# Altium schematic symbol library lpson.SchLib: 630 symbols (part 3 of 5)
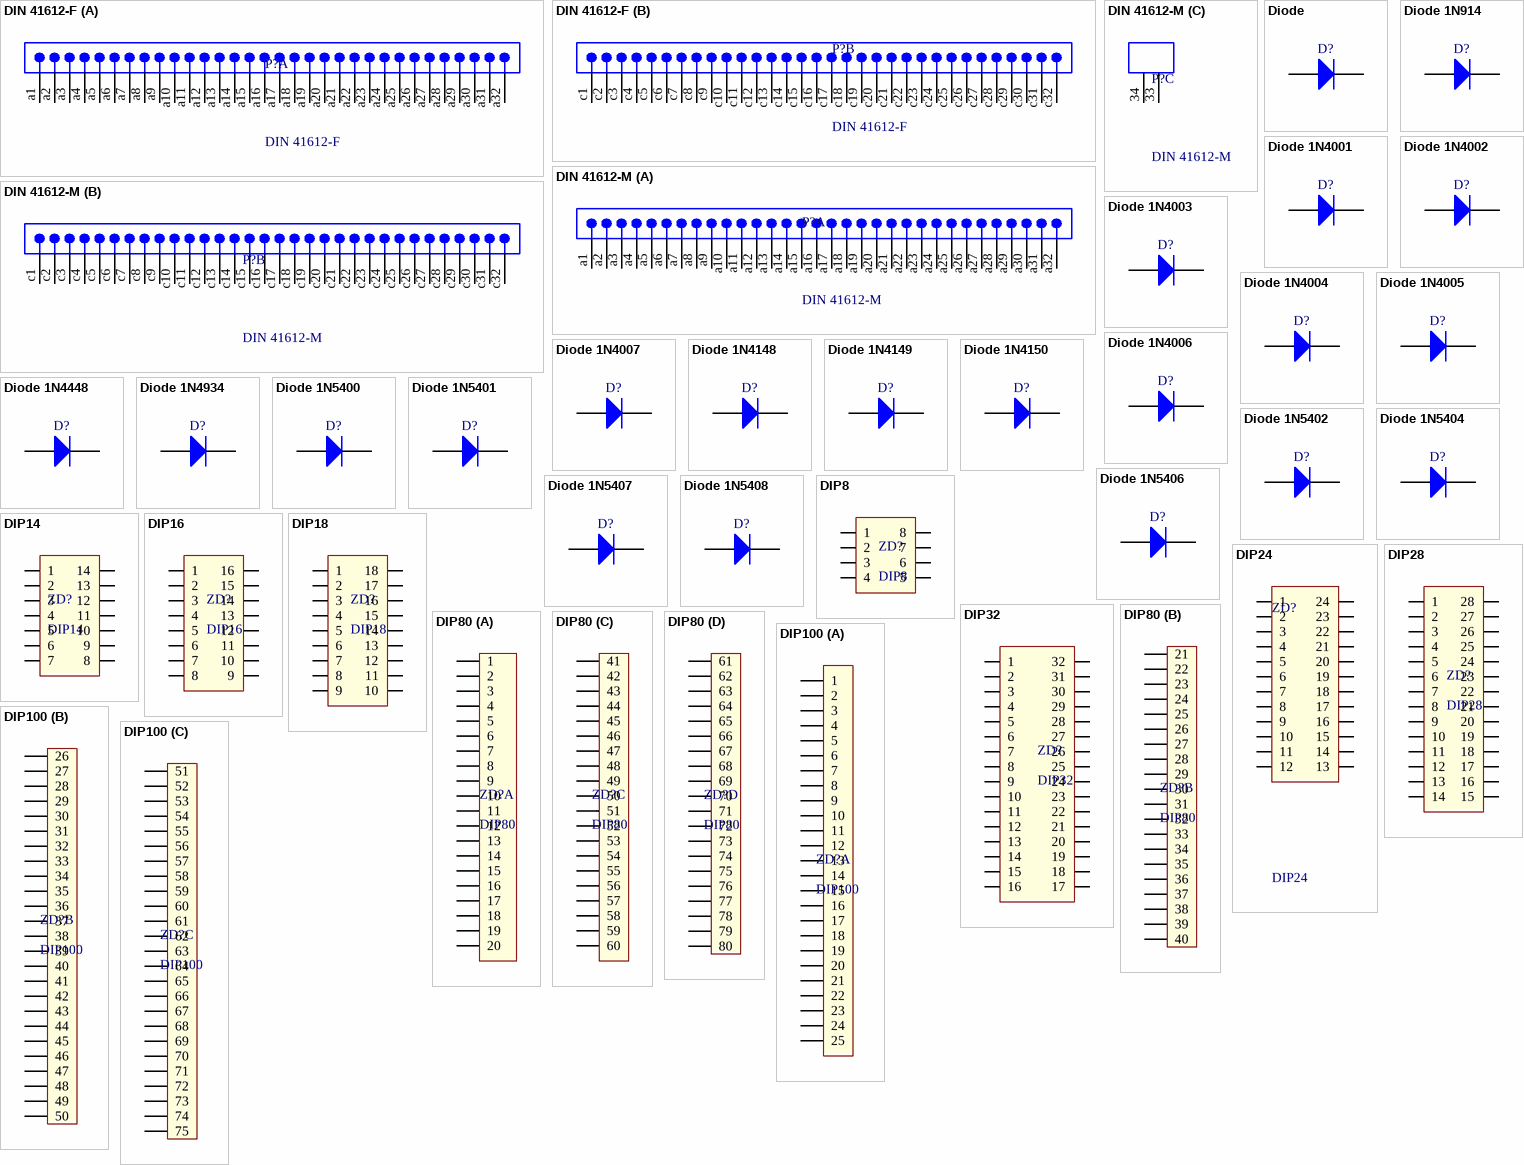
[diagram p23: symbols DIN 41612-F to DIP100]

## DIP18
designator ZD?
Value: DIP18
footprint DIP18/W0.3 (18 PIN, W 300mil, Pin to pin 100mil)
pins: 1, 2, 3, 4, 5, 6, 7, 8, 9, 10, 11, 12, 13, 14, 15, 16, 17, 18

## DIP24
designator ZD?
Value: DIP24
footprint DIP28/W0.3 (28 PIN, W 300mil, Pin to pin 100mil)
pins: 1, 2, 3, 4, 5, 6, 7, 8, 9, 10, 11, 12, 13, 14, 15, 16, 17, 18, 19, 20, 21, 22, 23, 24

## DIP28
designator ZD?
Value: DIP28
footprint DIP28/W0.3 (28 PIN, W 300mil, Pin to pin 100mil)
pins: 1, 2, 3, 4, 5, 6, 7, 8, 9, 10, 11, 12, 13, 14, 15, 16, 17, 18, 19, 20, 21, 22, 23, 24, 25, 26, 27, 28

## DIP32
designator ZD?
Value: ZIP32
footprint DIP32/W0.6 (DIP32/W.600, Pin to pin 100mil)
pins: 1, 2, 3, 4, 5, 6, 7, 8, 9, 10, 11, 12, 13, 14, 15, 16, 17, 18, 19, 20, 21, 22, 23, 24, 25, 26, 27, 28, 29, 30, 31, 32

## DIP80
designator ZD?
Value: DIP80
footprint DIP80_2M (DIP80, P - P 200)
footprint TQFP-80 (Thin QFP, 80-Leads, Body 12x12mm, Pitch 0.5mm, IPC Low Density)
part A pins: 1, 2, 3, 4, 5, 6, 7, 8, 9, 10, 11, 12, 13, 14, 15, 16, 17, 18, 19, 20
part B pins: 21, 22, 23, 24, 25, 26, 27, 28, 29, 30, 31, 32, 33, 34, 35, 36, 37, 38, 39, 40
part C pins: 41, 42, 43, 44, 45, 46, 47, 48, 49, 50, 51, 52, 53, 54, 55, 56, 57, 58, 59, 60
part D pins: 61, 62, 63, 64, 65, 66, 67, 68, 69, 70, 71, 72, 73, 74, 75, 76, 77, 78, 79, 80

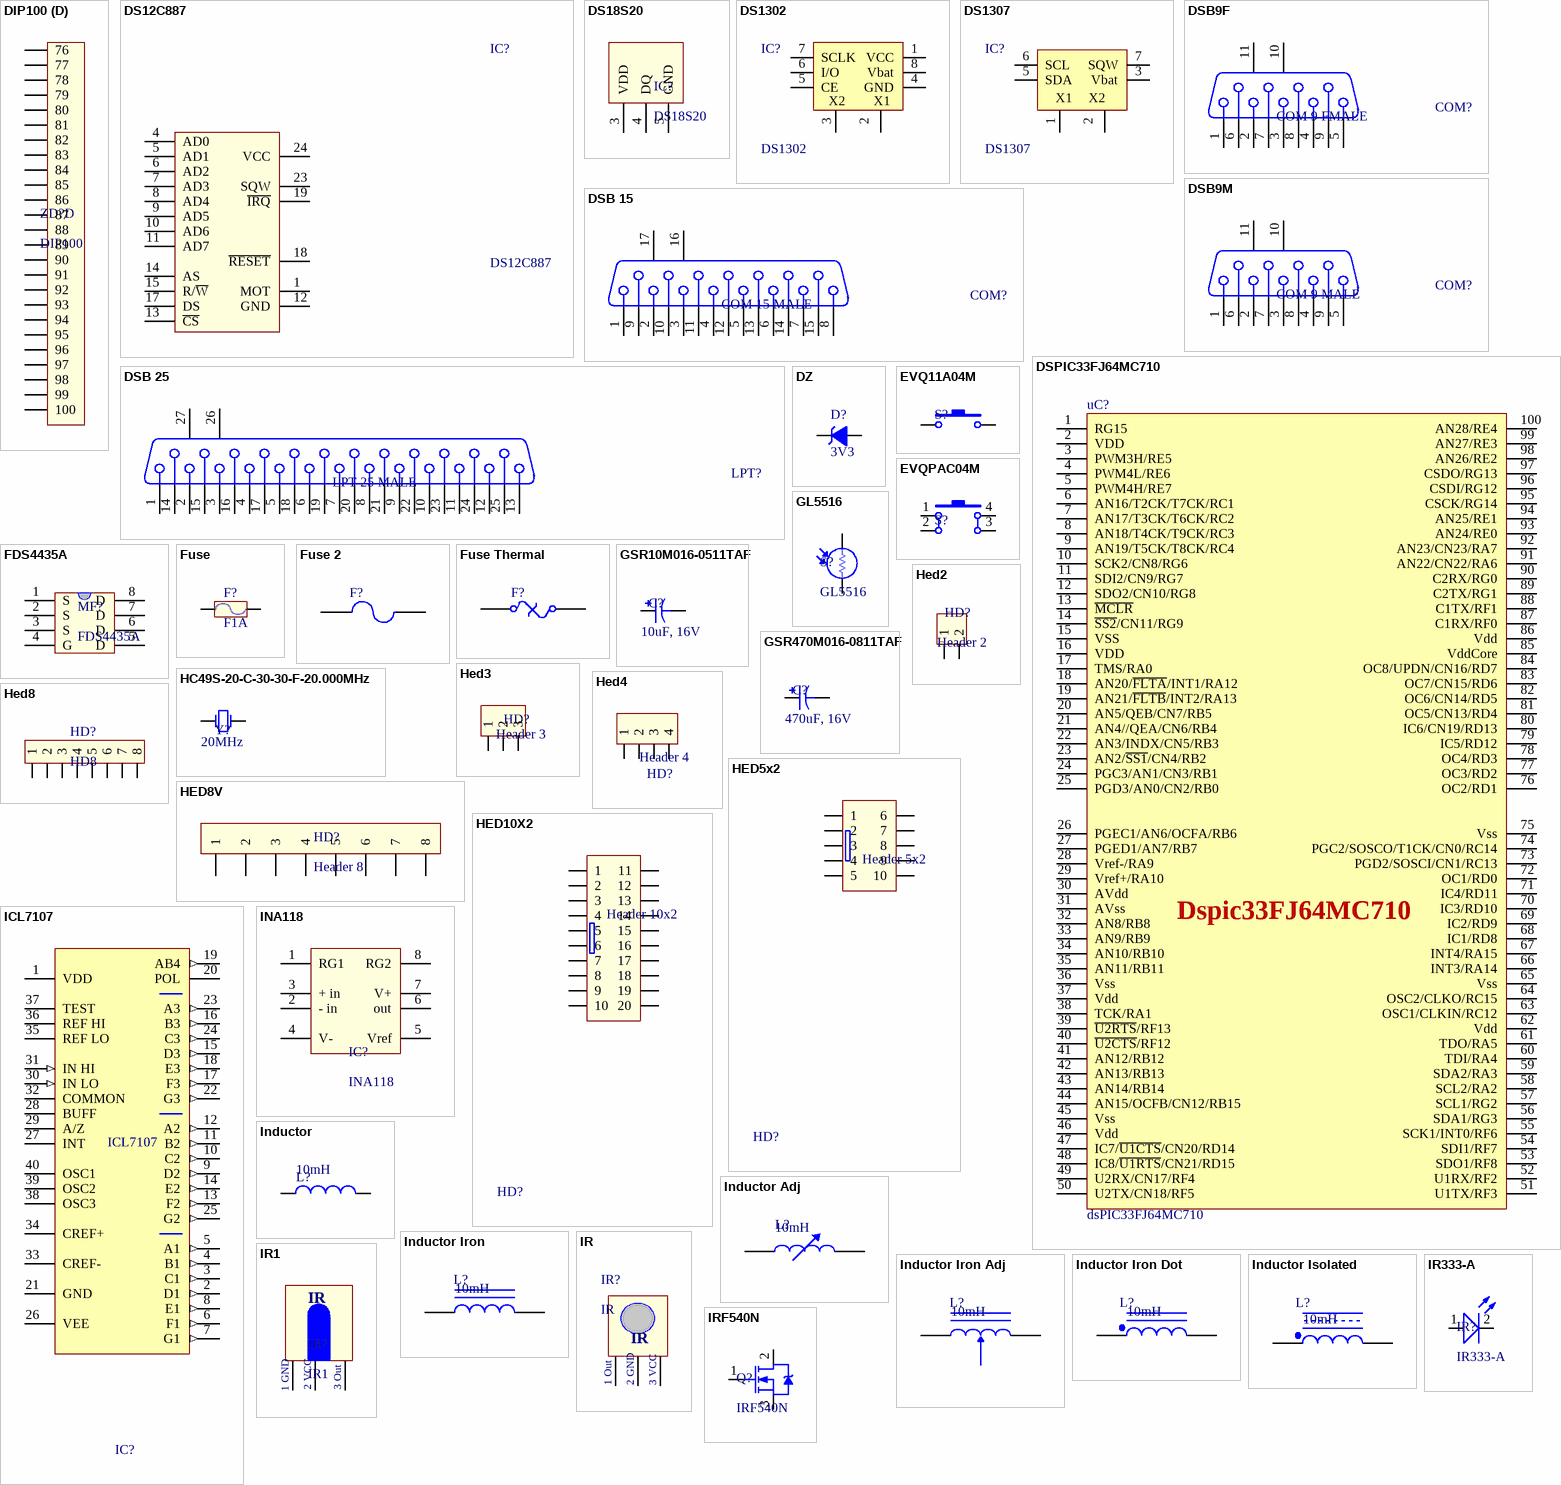
[diagram p9: symbols DIP100 to IRF540N]

## DIP100
designator ZD?
Value: DIP100
footprint DIP100_2M (DIP100 - P-P 2mm)
footprint TQFP-100 (Footprint not found)
part A pins: 1, 2, 3, 4, 5, 6, 7, 8, 9, 10, 11, 12, 13, 14, 15, 16, 17, 18, 19, 20, 21, 22, 23, 24, 25
part B pins: 26, 27, 28, 29, 30, 31, 32, 33, 34, 35, 36, 37, 38, 39, 40, 41, 42, 43, 44, 45, 46, 47, 48, 49, 50
part C pins: 51, 52, 53, 54, 55, 56, 57, 58, 59, 60, 61, 62, 63, 64, 65, 66, 67, 68, 69, 70, 71, 72, 73, 74, 75
part D pins: 76, 77, 78, 79, 80, 81, 82, 83, 84, 85, 86, 87, 88, 89, 90, 91, 92, 93, 94, 95, 96, 97, 98, 99, 100

## DS12C887
designator IC?
Real Timer Parallel; Value: DS12C887
pins: 1 MOT, 4 AD0, 5 AD1, 6 AD2, 7 AD3, 8 AD4, 9 AD5, 10 AD6, 11 AD7, 12 GND, 13 ~{CS}, 14 AS, 15 R/~{W}, 17 DS, 18 ~{RESET}, 19 ~{IRQ}, 23 SQW, 24 VCC

## DS18S20
designator IC?
High Precision  1-Wire® Digital Thermometer
footprint DS18S20 (TO-92)
pins: 3 VDD, 4 DQ, 5 GND

## DS1302
designator IC?
Real Timer Serial - 2=>5V; Value: DS1307
footprint DIP8/W0.3 (8 PIN, W 300mil, Pin to pin 100mil)
footprint SO-8 (8-Pin Small Outline Integrated Circuit 1.27 mm Pitch, IPC Medium Density)
pins: 1 VCC, 2 X1, 3 X2, 4 GND, 5 CE, 6 I/O, 7 SCLK, 8 Vbat

## DS1307
designator IC?
Real Timer Serial; Value: DS1307
footprint DIP8/W0.3 (8 PIN, W 300mil, Pin to pin 100mil)
pins: 1 X1, 2 X2, 3 Vbat, 4 GND hidden to GND, 5 SDA, 6 SCL, 7 SQW, 8 VCC hidden to VCC

## DSB9F
designator COM?, comment COM 9 FMALE
COM 9; PackageDocument: O; Positions: 9; Gender: Receptacle; Value: COM 9; Published: 15-Jun-2001; LatestRevisionDate: 17-Jul-2002; LatestRevisionNote: Re-released for DXP Platform.; DatasheetDocument: 1-Sep-1999; PackageReference: 788750; Publisher: Altium Limited; Orientation: Right Angle
footprint DSB 9-F (Connector; D Subminiature; 9 Position; Right Angle; Pitch 1.385 mm)
signal-integrity model Connector
footprint DSB 9F-SM (Com 9 chan SMD,F)
pins: 1, 2, 3, 4, 5, 6, 7, 8, 9, 10 MH1, 11 MH2

## DSB9M
designator COM?, comment COM 9 MALE
COM 9; PackageDocument: O; Positions: 9; Gender: Receptacle; Value: COM 9; Published: 15-Jun-2001; LatestRevisionDate: 17-Jul-2002; LatestRevisionNote: Re-released for DXP Platform.; DatasheetDocument: 1-Sep-1999; PackageReference: 788750; Publisher: Altium Limited; Orientation: Right Angle
signal-integrity model Connector
footprint DSB 9M-SM (Com 9 chan SMD,F)
footprint DSB 9-M (Footprint not found)
pins: 1, 2, 3, 4, 5, 6, 7, 8, 9, 10 MH1, 11 MH2

## DSB 15
designator COM?, comment COM 15 MALE
COM 15; PackageDocument: O; Positions: 15; Gender: Receptacle; Value: COM 15; Published: 15-Jun-2001; LatestRevisionDate: 17-Jul-2002; LatestRevisionNote: Re-released for DXP Platform.; DatasheetDocument: 1-Sep-99; PackageReference: 788757; Publisher: Altium Limited; Orientation: Right Angle
footprint DSB 15-F (COM FMALE - D Subminiature; 15 Position; Right Angle; Pitch 1.385 mm)
signal-integrity model Connector
footprint DSB 15-M (LPT15 MALE - D Subminiature; 15 Position; Right Angle; Pitch 1.385 mm)
pins: 1, 2, 3, 4, 5, 6, 7, 8, 9, 10, 11, 12, 13, 14, 15, 16 MH1, 17 MH2

## DSB 25
designator LPT?, comment LPT 25 MALE
LPT 25; PackageDocument: U; Positions: 25; Gender: Receptacle; Value: LPT 25; Published: 15-Jun-2001; LatestRevisionDate: 17-Jul-2002; LatestRevisionNote: Re-released for DXP Platform.; DatasheetDocument: 19-Mar-1999; PackageReference: 787202; Publisher: Altium Limited; Orientation: Right Angle
footprint DSB 25-F (LPT FMALE - D Subminiature; 25 Position; Right Angle; Pitch 1.385 mm)
signal-integrity model Connector
footprint DSB 25F-SM (25 pin, connector LPT)
footprint DSB 25-M (LPT MALE D Subminiature; 25 Position; Right Angle; Pitch 1.385 mm)
pins: 1, 2, 3, 4, 5, 6, 7, 8, 9, 10, 11, 12, 13, 14, 15, 16, 17, 18, 19, 20, 21, 22, 23, 24, 25, 26 MH1, 27 MH2

## DSPIC33FJ64MC710
designator uC?, comment dsPIC33FJ64MC710
dsPIC33FJ64/128/256_MC710
footprint SQFP12X12-100(N)
footprint SQFP14X14-100(N)
footprint TQFP-100-12X12 (Shrink QFP, 100-Leads, Body 12x12mm, Pitch 0.4mm, IPC High Density)
pins: 1 RG15, 2 VDD, 3 PWM3H/RE5, 4 PWM4L/RE6, 5 PWM4H/RE7, 6 AN16/T2CK/T7CK/RC1, 7 AN17/T3CK/T6CK/RC2, 8 AN18/T4CK/T9CK/RC3, 9 AN19/T5CK/T8CK/RC4, 10 SCK2/CN8/RG6, 11 SDI2/CN9/RG7, 12 SDO2/CN10/RG8, 13 ~{MCLR}, 14 ~{SS2}/CN11/RG9, 15 VSS, 16 VDD, 17 TMS/RA0, 18 AN20/~{FLTA}/INT1/RA12, 19 AN21/~{FLTB}/INT2/RA13, 20 AN5/QEB/CN7/RB5, 21 AN4//QEA/CN6/RB4, 22 AN3/INDX/CN5/RB3, 23 AN2/~{SS1}/CN4/RB2, 24 PGC3/AN1/CN3/RB1, 25 PGD3/AN0/CN2/RB0, 26 PGEC1/AN6/OCFA/RB6, 27 PGED1/AN7/RB7, 28 Vref-/RA9, 29 Vref+/RA10, 30 AVdd, 31 AVss, 32 AN8/RB8, 33 AN9/RB9, 34 AN10/RB10, 35 AN11/RB11, 36 Vss, 37 Vdd, 38 TCK/RA1, 39 ~{U2RTS}/RF13, 40 ~{U2CTS}/RF12, 41 AN12/RB12, 42 AN13/RB13, 43 AN14/RB14, 44 AN15/OCFB/CN12/RB15, 45 Vss, 46 Vdd, 47 IC7/~{U1CTS}/CN20/RD14, 48 IC8/~{U1RTS}/CN21/RD15, 49 U2RX/CN17/RF4, 50 U2TX/CN18/RF5, 51 U1TX/RF3, 52 U1RX/RF2, 53 SDO1/RF8, 54 SDI1/RF7, 55 SCK1/INT0/RF6, 56 SDA1/RG3, 57 SCL1/RG2, 58 SCL2/RA2, 59 SDA2/RA3, 60 TDI/RA4, 61 TDO/RA5, 62 Vdd, 63 OSC1/CLKIN/RC12, 64 OSC2/CLKO/RC15, 65 Vss, 66 INT3/RA14, 67 INT4/RA15, 68 IC1/RD8, 69 IC2/RD9, 70 IC3/RD10, 71 IC4/RD11, 72 OC1/RD0, 73 PGD2/SOSCI/CN1/RC13, 74 PGC2/SOSCO/T1CK/CN0/RC14, 75 Vss, 76 OC2/RD1, 77 OC3/RD2, 78 OC4/RD3, 79 IC5/RD12, 80 IC6/CN19/RD13, 81 OC5/CN13/RD4, 82 OC6/CN14/RD5, 83 OC7/CN15/RD6, 84 OC8/UPDN/CN16/RD7, 85 VddCore, 86 Vdd, 87 C1RX/RF0, 88 C1TX/RF1, 89 C2TX/RG1, 90 C2RX/RG0, 91 AN22/CN22/RA6, 92 AN23/CN23/RA7, 93 AN24/RE0, 94 AN25/RE1, 95 CSCK/RG14, 96 CSDI/RG12, 97 CSDO/RG13, 98 AN26/RE2, 99 AN27/RE3, 100 AN28/RE4
text: Dspic33FJ64MC710

## DZ
designator D?, comment 3V3
Diode Zenner; Value: 3v3
footprint DZ0.5A (Diode Zenner, W 80mil, L 300mil)
footprint DZ5A (Diode 5A, W 200mil, L 550mil)
footprint DZ1A (Diode 1A, W 100mil, L 350mil)
footprint DZ2A (Diode 2A, W 150mil, L 450mil)
pins: 1 A, 2 K

## EVQ11A04M
designator S?  (value not drawn)
Tact Switch 2 Pins White 6mm; Value: Button; ComponentLink1Description: Datasheet; ComponentLink1URL: D:\Dropbox\Datasheets\Electromechanical\Switchs\EVQ11.pdf; Unit Price: 0.0060
footprint EVQ11 (Tact Switch 2 pin; White; 5mm)
pins: 1 A, 2 B

## EVQPAC04M
designator S?  (value not drawn)
Tact Switch 4 Pins White 6mm; Value: Button; ComponentLink1Description: Datasheet; ComponentLink1URL: D:\Dropbox\Datasheets\Electromechanical\Switchs\EVQPA.pdf; Unit Price: 0.0060
footprint EVQPA (Tact Switch 4 pin; Black; 6mm)
pins: 1 A, 2 A', 3 B', 4 B

## FDS4435A
designator MF?
P-Channel Logic Level PowerTrench MOSFET; Value: FDS4435
footprint SO-8 (8-Pin Small Outline Integrated Circuit 1.27 mm Pitch, IPC Medium Density)
footprint DIP8/w0.3 (8 PIN, W 300mil, Pin to pin 100mil)
pins: 1 S, 2 S, 3 S, 4 G, 5 D, 6 D, 7 D, 8 D

## Fuse
designator F?, comment F1A
Fuse; Designed by: VanDungEvn; Value: Fuse
footprint Fuse (De Fuse)
footprint FUSE1 (De Fuse Box)
footprint FUSE2 (Fuse)
pins: 1, 2

## Fuse 2
designator F?
Fuse; Published: 8-Jun-2000; LatestRevisionDate: 17-Jul-2002; LatestRevisionNote: Re-released for DXP Platform.; PackageReference: PIN-W2/E2.8; Publisher: Altium Limited; PackageDescription: Thru-Hole; 2 Leads
footprint PIN-W2/E2.8 (Thru-Hole; 2 Leads)
simulation model FUSE (Spice Subcircuit)
pins: 1, 2

## Fuse Thermal
designator F?
Thermal Fuse; Published: 24-Mar-1999; LatestRevisionDate: 17-Jul-2002; LatestRevisionNote: Re-released for DXP Platform.; PackageReference: PIN-W2/E2.8; Publisher: Altium Limited; PackageDescription: Thru-Hole; 2 Leads
footprint PIN-W2/E2.8 (Thru-Hole; 2 Leads)
pins: 1, 2

## GL5516
designator S?
Photoresistor 500k 150V 30ms GL55; ComponentLink1Description: Datasheet; ComponentLink1URL: D:\Dropbox\Datasheets\Opto and Illumination\Photoresistors\GL55.pdf; Unit Price: 0.2300
footprint GL55 (Footprint not found)
pins: 1, 2

## GSR10M016-0511TAF
designator C?  value 10uF, 16V  (hidden comment: GSR10M016-0511TAF)
CAP GSR 0511 10uF 16V 20%; ComponentLink1Description: Datasheet; ComponentLink1URL: D:\Dropbox\Datasheets\Passive Components\Capacitors\GSR Aluminum electrolytic capacitors.pdf
footprint CAPPR2-5x11 (Capacitor, Electrolytic, Radial; Body 5 x 11 mm (Dia.xH typ); Pin Spacing 2 mm (typ))
pins: 1, 2
1 alternate drawing of the same symbol

## GSR470M016-0811TAF
designator C?  value 470uF, 16V  (hidden comment: GSR470M016-0811TAF)
CAP GSR 0811 470uF 16V 20%; ComponentLink1Description: Datasheet; ComponentLink1URL: D:\Dropbox\Datasheets\Passive Components\Capacitors\GSR Aluminum electrolytic capacitors.pdf
footprint CAPPR3.5-8x11.5 (Capacitor, Electrolytic, Radial; Body 8 x 11.5 mm (Dia.xH typ); Pin Spacing 3.5 mm (typ))
pins: 1, 2
1 alternate drawing of the same symbol

## HC49S-20-C-30-30-F-20.000MHz
designator Y?  value 20MHz  (hidden comment: HC49S-20-C-30-30-F-20.000MHz)
Crystal Oscillator 30ppm 20.000MHz; ComponentLink1Description: Datasheet; ComponentLink1URL: D:\Dropbox\Datasheets\Passive Components\Crystals\HC49S.pdf; Unit Price: 0.0440
footprint BCY-W2/E4.7 (Quartz Crystal, Thru-Hole; 2 Leads; Body 11.35 x 4.65 x 13.46 mm (LxWxH max))
pins: 1 OSC1, 2 OSC2

## Hed2
designator HD?, comment Header 2
Header 2 (Green); Value: Header 2
footprint Header_2 (Connector DIP, 2Pin_2.54mm)
pins: 1, 2

## Hed3
designator HD?, comment Header 3
Header 3 (Green); Value: Header 3
footprint Header_3 (Connector DIP, 3Pin_2.54mm)
pins: 1, 2, 3

## Hed4
designator HD?, comment Header 4
Header 4 (Green); Value: Header 4
footprint Header_4 (Connector DIP, 4Pin_2.54mm)
pins: 1, 2, 3, 4

## HED5x2
designator HD?, comment Header 5x2
Value: Header 5x2
footprint HED2X5_cen (Connector; Header; 5x2 Position)
pins: 1, 2, 3, 4, 5, 6, 7, 8, 9, 10

## Hed8
designator HD?, comment HD8
Hedear 8; Creat by: VanDungEvn@Gmail.com
footprint RES 1/4W CFR25 (Axial Device, Thru-Hole; 2 Leads fi 0.55)
pins: 1, 2, 3, 4, 5, 6, 7, 8

## HED8V
designator HD?, comment Header 8
Header 8 Vit Broad
footprint HED8V (Header 6)
pins: 1, 2, 3, 4, 5, 6, 7, 8

## HED10X2
designator HD?, comment Header 10x2
Value: Header 5x2
footprint Hed2X10 (Header 10x2,20 pin, connecter)
pins: 1, 2, 3, 4, 5, 6, 7, 8, 9, 10, 11, 12, 13, 14, 15, 16, 17, 18, 19, 20

## ICL7107
designator IC?
Dipslay voltage 0 - 1999; Value: ICL7107
footprint DIP40/W0.6 (40 PIN, W 600mil, Pin to pin 100mil)
pins: 1 VDD (power), 2 D1 (out), 3 C1 (out), 4 B1 (out), 5 A1 (out), 6 F1 (out), 7 G1 (out), 8 E1 (out), 9 D2 (out), 10 C2 (out), 11 B2 (out), 12 A2 (out), 13 F2 (out), 14 E2 (out), 15 D3 (out), 16 B3 (out), 17 F3 (out), 18 E3 (out), 19 AB4 (out), 20 POL, 21 GND (power), 22 G3 (out), 23 A3 (out), 24 C3 (out), 25 G2 (out), 26 VEE (power), 27 INT, 28 BUFF, 29 A/Z, 30 IN LO (in), 31 IN HI (in), 32 COMMON, 33 CREF-, 34 CREF+, 35 REF LO, 36 REF HI, 37 TEST, 38 OSC3, 39 OSC2, 40 OSC1

## INA118
designator IC?
Precision, Low Power  INSTRUMENTATION AMPLIFIER; Designed by: VanDungEvn; Value: INA118
footprint DIP8/W0.3 (8 PIN, W 300mil, Pin to pin 100mil)
pins: 1 RG1, 2 - in, 3 + in, 4 V-, 5 Vref, 6 out, 7 V+, 8 RG2

## Inductor
designator L?  value 10mH
Inductor; Code_IEC: 1005; Published: 8-Jun-2000; LatestRevisionDate: 29-May-2009; LatestRevisionNote: IPC-7351 Footprint Added.; PackageReference: 0402-A; Publisher: Altium Limited; PackageDescription: Chip Inductor; Code_JEITA: 0402
footprint 0402-A (Chip Inductor, Body 1.0x0.5mm, IPC High Density)
footprint INDC1608L (Chip Inductor, Body 1.6x0.8mm, IPC High Density)
footprint 2029 (Chip Inductor, Body 2.0x1.2mm, IPC High Density)
footprint 0603 (Chip Inductor, Body 0.6x0.3mm, IPC High Density)
footprint INDC3216 (Chip Inductor, Body 3.2x1.6mm, IPC High Density)
footprint INDC4532 (Chip Inductor, Body 4.5x3.2mm, IPC High Density)
simulation model INDUCTOR (Inductor)
signal-integrity model Inductor
pins: 1, 2

## Inductor Adj
designator L?  value 10mH
Adjustable Inductor; Set Position: 0.5; Published: 24-Mar-1999; LatestRevisionDate: 17-Jul-2002; LatestRevisionNote: Re-released for DXP Platform.; PackageReference: AXIAL-0.8; Publisher: Altium Limited; PackageDescription: Axial Device, Thru-Hole; 2 Leads; 0.8 in Pin Spacing
footprint AXIAL-0.8 (Axial Device, Thru-Hole; 2 Leads; 0.8 in Pin Spacing)
simulation model INDUCTOR (Inductor)
signal-integrity model Inductor Adj
pins: 1, 2

## Inductor Iron
designator L?  value 10mH
Magnetic-Core Inductor; Published: 24-Mar-1999; LatestRevisionDate: 17-Jul-2002; LatestRevisionNote: Re-released for DXP Platform.; PackageReference: AXIAL-0.9; Publisher: Altium Limited; PackageDescription: Axial Device, Thru-Hole; 2 Leads; 0.9 in Pin Spacing
footprint AXIAL-0.9 (Axial Device, Thru-Hole; 2 Leads; 0.9 in Pin Spacing)
simulation model INDUCTOR (Inductor)
signal-integrity model Inductor Iron
pins: 1, 2

## Inductor Iron Adj
designator L?  value 10mH
Adjustable Magnetic-Core Inductor; Set Position: 0.5; Published: 24-Mar-1999; LatestRevisionDate: 17-Jul-2002; LatestRevisionNote: Re-released for DXP Platform.; PackageReference: AXIAL-1.0; Publisher: Altium Limited; PackageDescription: Axial Device, Thru-Hole; 2 Leads; 1.0 in Pin Spacing
footprint AXIAL-1.0 (Axial Device, Thru-Hole; 2 Leads; 1.0 in Pin Spacing)
simulation model INDUCTOR (Inductor)
signal-integrity model Inductor Iron Adj
pins: 1, 2

## Inductor Iron Dot
designator L?  value 10mH
Magnetic-Core Inductor with Winding Polarity Marking; Published: 24-Mar-1999; LatestRevisionDate: 17-Jul-2002; LatestRevisionNote: Re-released for DXP Platform.; PackageReference: DIODE_SMC; Publisher: Altium Limited; PackageDescription: Diode; 2 Leads
footprint DIODE_SMC (Diode; 2 Leads)
signal-integrity model Inductor Iron Dot
pins: 1, 2

## Inductor Isolated
designator L?  value 10mH
Isolated Inductor; Published: 24-Mar-1999; LatestRevisionDate: 17-Jul-2002; LatestRevisionNote: Re-released for DXP Platform.; PackageVersion: 1988; PackageReference: 425; Publisher: Altium Limited; PackageDescription: SOD-123; 2 Leads; Body 2.7 x 1.6 mm, (LxW)
footprint 425 (SOD-123; 2 Leads; Body 2.7 x 1.6 mm, (LxW))
signal-integrity model Inductor Isolated
pins: 1, 2

## IR
designator IR?
Receiver Infraed IC
footprint IR (Receiver Infared IC)
pins: 1 Out, 2 GND, 3 VCC
text: 1 Out; 2 GND; 3 VCC

## IR1
designator IR?
Receiver Infraed IC
footprint IR2 (Receiver Infared IC)
pins: 1 Out, 2 GND, 3 VCC
text: IR; 1 GND; 2 VCC; 3 Out

## IR333-A
designator IR?
IRLED 100mA 1.4V 5mm; ComponentLink1Description: Datasheet; ComponentLink1URL: D:\Dropbox\Datasheets\Opto and Illumination\Infrared\IR333-A.pdf; Unit Price: 0.2300
footprint IR333-A (Footprint not found)
pins: 1 A, 2 K

## IRF540N
designator Q?
Mosfet N 100V 33A TO-220; ComponentLink1Description: Datasheet; ComponentLink1URL: D:\Dropbox\Datasheets\Transistors\N Channel MOSFETs\IRF540N.pdf; Unit Price: 0.4762
footprint TO-220AB (TO, Thru-Hole, Vertical, Heatsink Mounted; 3 In-Line Leads; Pitch 2.54 mm)
pins: 1 G, 2 D, 3 S

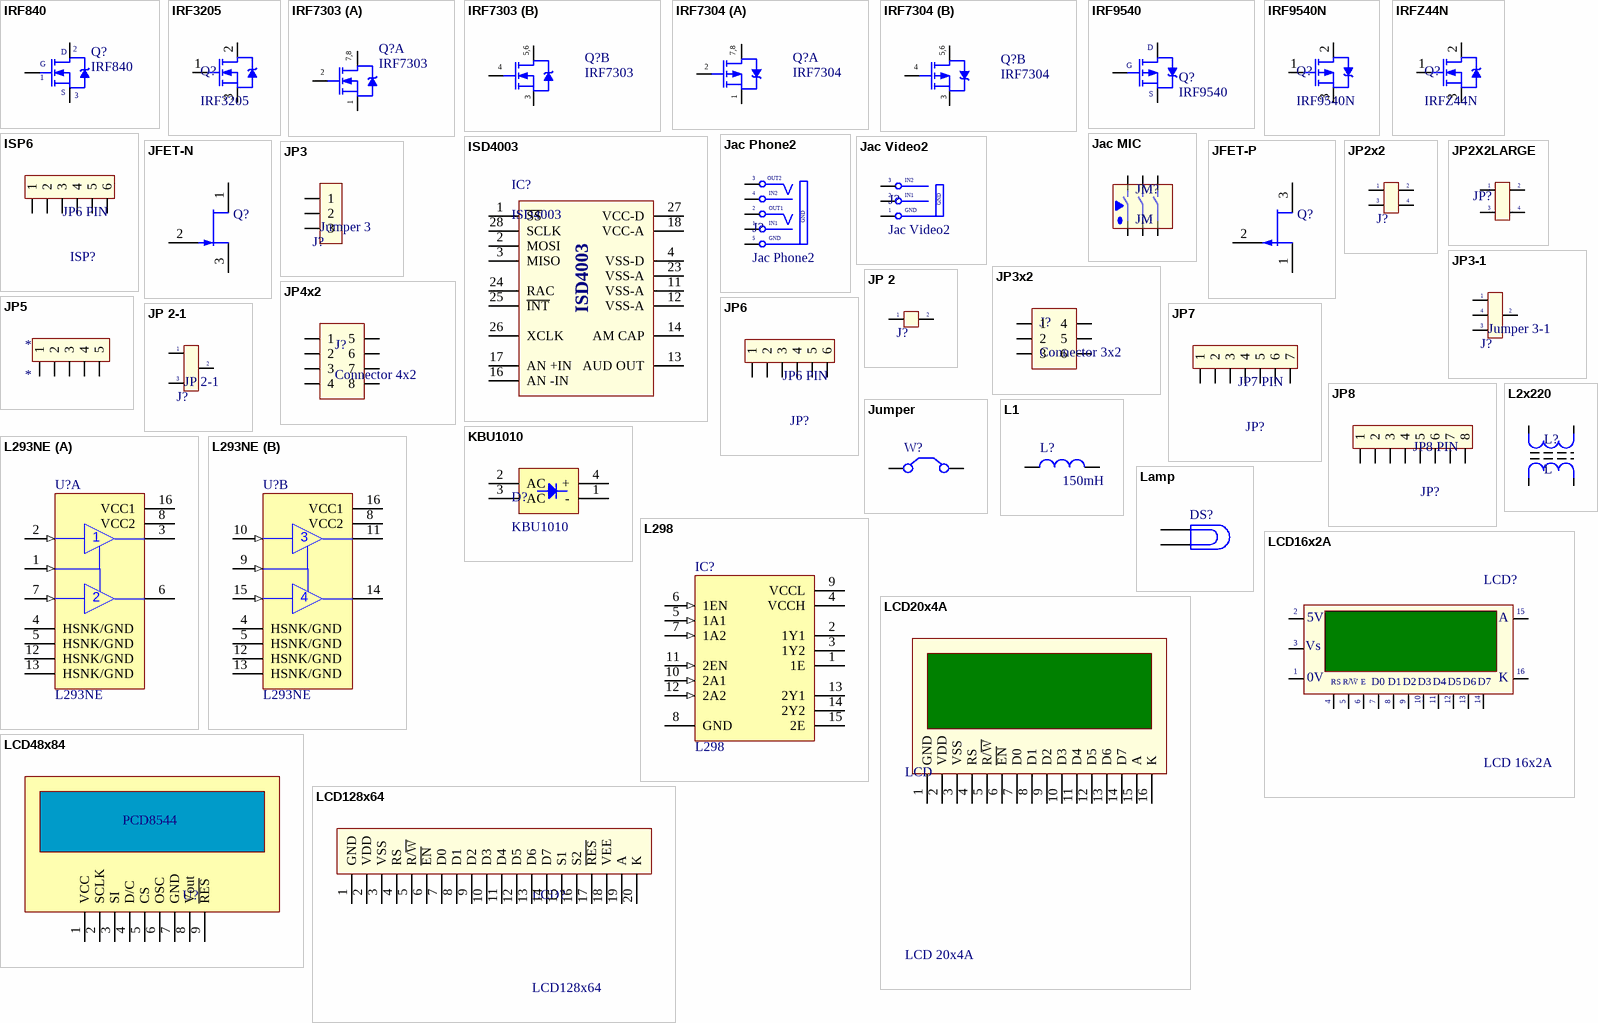
[diagram p10: symbols IRF840 to LCD128x64]

## IRF840
designator Q?
MOSFET N - CHANNEL 500V - 0.75 - 8A - TO-220; Value: IRF840
footprint QTO-220 (TO-220 - 1-2-3)
pins: 1 G, 2 D, 3 S

## IRF3205
designator Q?
Mosfet N 55V 110A TO-220; ComponentLink1Description: Datasheet; ComponentLink1URL: D:\Dropbox\Datasheets\Transistors\N Channel MOSFETs\IFR3205.pdf; Unit Price: 0.5952
footprint TO-220AB (TO, Thru-Hole, Vertical, Heatsink Mounted; 3 In-Line Leads; Pitch 2.54 mm)
pins: 1 G, 2 D, 3 S

## IRF7303
designator Q?
HEXFET Power MOSFET; Published: 8-Jun-2000; LatestRevisionDate: 13-Apr-2006; LatestRevisionNote: IPC-7351 Footprint Added.; DatasheetVersion: Aug-1997; PackageVersion: Feb-2001; PackageReference: SO-8; Publisher: Altium Limited; PackageDescription: 8-Pin Plastic Small Outline Integrated Circuit 1.27 mm Pitch; Code_JEDEC: MS-012-AA; Code_IPC: SOIC127P600-8; ComponentLink1Description: Manufacturer Link; ComponentLink1URL: http://www.irf.com/; ComponentLink2Description: Datasheet; ComponentLink2URL: http://www.irf.com/product-info/datasheets/data/irf7303.pdf
footprint SO-8 (8-Pin Small Outline Integrated Circuit 1.27 mm Pitch, IPC Medium Density)
simulation model IRF7303 (SUBCKT)
part A pins: 1 S, 2 G, 7 D, 8 D
part B pins: 3 S, 4 G, 5 D, 6 D
part A text: 7,8
part B text: 5,6

## IRF7304
designator Q?
HEXFET Power MOSFET; Published: 8-Jun-2000; LatestRevisionDate: 13-Apr-2006; LatestRevisionNote: IPC-7351 Footprint Added.; DatasheetVersion: Aug-1997; PackageVersion: Feb-2001; PackageReference: SO-8; Publisher: Altium Limited; PackageDescription: 8-Pin Plastic Small Outline Integrated Circuit 1.27 mm Pitch; Code_JEDEC: MS-012-AA; Code_IPC: SOIC127P600-8; ComponentLink1Description: Manufacturer Link; ComponentLink1URL: http://www.irf.com/; ComponentLink2Description: Datasheet; ComponentLink2URL: http://www.irf.com/product-info/datasheets/data/irf7304.pdf
footprint SO-8 (8-Pin Small Outline Integrated Circuit 1.27 mm Pitch, IPC Medium Density)
simulation model IRF7304 (SUBCKT)
part A pins: 1 S, 2 G, 7 D, 8 D
part B pins: 3 S, 4 G, 5 D, 6 D
part A text: 7,8
part B text: 5,6

## IRF9540
designator Q?
HEXFET P-Channel Power MOSFET; Note: Pin 2 is electrically connected to pin 4.; Published: 8-Jun-2000; LatestRevisionDate: 17-Jul-2002; LatestRevisionNote: Re-released for DXP Platform.; DatasheetVersion: PD-9.421C; PackageVersion: Feb-1997; PackageReference: TO-220AB; Publisher: Altium Limited; PackageDescription: TO, Thru-Hole, Vertical, Heatsink Mounted; 3 In-Line Leads; Pitch 2.54 mm; ComponentLink1Description: Manufacturer Link; ComponentLink1URL: http://www.irf.com/; ComponentLink2Description: Datasheet; ComponentLink2URL: http://www.irf.com/product-info/datasheets/data/irf9540.pdf
footprint QTO-220 (TO-220 - 1-2-3)
simulation model IRF9540 (SUBCKT)
pins: 1 G, 2 D, 3 S

## IRF9540N
designator Q?
Mosfet P -100V -23A TO-220; ComponentLink1Description: Datasheet; ComponentLink1URL: D:\Dropbox\Datasheets\Transistors\P Channel MOSFETs\IRF9540N.pdf; Unit Price: 0.5143
footprint TO-220AB (TO, Thru-Hole, Vertical, Heatsink Mounted; 3 In-Line Leads; Pitch 2.54 mm)
pins: 1 G, 2 D, 3 S

## IRFZ44N
designator Q?
Mosfet N 55V 49A TO-220; ComponentLink1Description: Datasheet; ComponentLink1URL: D:\Dropbox\Datasheets\Transistors\N Channel MOSFETs\IRFZ44N.pdf; Unit Price: 0.3095
footprint TO-220AB (TO, Thru-Hole, Vertical, Heatsink Mounted; 3 In-Line Leads; Pitch 2.54 mm)
pins: 1 G, 2 D, 3 S

## ISD4003
designator IC?
Single-chip voice Record/Playback solution
footprint DIP28/W0.6 (DIP28/W.600, Pin to pin 100mil)
pins: 1 ~{SS}, 2 MOSI, 3 MISO, 4 VSS-D, 11 VSS-A, 12 VSS-A, 13 AUD OUT, 14 AM CAP, 16 AN -IN, 17 AN +IN, 18 VCC-A, 23 VSS-A, 24 RAC, 25 ~{INT}, 26 XCLK, 27 VCC-D, 28 SCLK

## ISP6
designator ISP?, comment JP6 PIN
ISP6 PIN; Value: JP7
footprint ISP6 (Jac nap PIC)
pins: 1, 2, 3, 4, 5, 6, 7, 8

## Jac MIC
designator JM?, comment JM
Jac Micro; Value: Jac MIC to 6 pin
footprint DC-IN (Jac DC input)
pins: 1, 2, 3, 4, 5, 6

## Jac Phone2
designator J?
Jac Phone Stereo; Creat by: VanDungEvn@Gmail.com
footprint JacPhone2 (Jac Phone Stereo)
footprint JAC_PHONE2 (Jac Phone Stereo)
pins: 1 S1 (power) "Sleeve (Ground)", 2 S1 "Tip Normal (Break Contact)", 3 TN "Tip Normal (Break Contact)", 4 S (power) "Sleeve (Ground)", 5 GND "Tip"
text: OUT2; IN2; OUT1; IN1

## Jac Video2
designator J?
Jac Video Stereo
footprint Jac Video2 (Footprint not found)
pins: 1 GND "Tip", 2 S1 (power) "Sleeve (Ground)", 3 S2 "Tip Normal (Break Contact)"
text: IN2; IN1

## JFET-N
designator Q?
N-Channel JFET; Published: 8-Jun-2000; LatestRevisionDate: 17-Jul-2002; LatestRevisionNote: Re-released for DXP Platform.; PackageReference: TO-254-AA; Publisher: Altium Limited; Code_JEDEC: TO-254-AA
footprint TO-254-AA (TO, Thru-Hole, Vertical, Heatsink Mounted; 3 In-Line Leads; Pitch 3.81 mm)
simulation model NJFET
pins: 1 D, 2 G, 3 S

## JFET-P
designator Q?
P-Channel JFET; Published: 8-Jun-2000; LatestRevisionDate: 17-Jul-2002; LatestRevisionNote: Re-released for DXP Platform.; PackageReference: TO-18A; Publisher: Altium Limited; PackageDescription: SC-89; 3 Flat Leads; Body 1.6 x 1.6 x 0.7 mm, inc leads (LxWxH typ)
footprint TO-18A (SC-89; 3 Flat Leads; Body 1.6 x 1.6 x 0.7 mm, inc leads (LxWxH typ))
simulation model PJFET
pins: 1 D, 2 G, 3 S

## JP2x2
designator J?, comment Jumper 2x2  (value not drawn)
Value: JP 2x2
footprint JP2X2
pins: 1, 2, 3, 4

## JP2X2LARGE
designator JP?, comment JUM2X2  (value not drawn)
pins: 1, 2, 3, 4

## JP3
designator J?, comment Jumper 3
Value: J3
footprint JP3 (Jumper 3)
footprint JP3H
pins: 1, 2, 3

## JP3-1
designator J?, comment Jumper 3-1
Value: J3-1
footprint J3-1 (Jumper 4)
pins: 1, 2, 3, 4

## JP3x2
designator J?, comment Connector 3x2
Value: Connector 3x2
footprint JP3x2 (Connector 3x2)
pins: 1, 2, 3, 4, 5, 6

## JP4x2
designator J?, comment Connector 4x2
Value: Connector 4x2
footprint JP4x2 (Connector 4x2)
pins: 1, 2, 3, 4, 5, 6, 7, 8

## JP5
designator *
footprint JP5
footprint JP5H
pins: 1, 2, 3, 4, 5

## JP6
designator JP?, comment JP6 PIN
Value: JP7
footprint JP6
footprint JP6H
pins: 1, 2, 3, 4, 5, 6

## JP7
designator JP?, comment JP7 PIN
Value: JP7
footprint JP7
footprint JP7H
pins: 1, 2, 3, 4, 5, 6, 7

## JP8
designator JP?, comment JP8 PIN
Value: JP7
footprint JP8
footprint JP8H
pins: 1, 2, 3, 4, 5, 6, 7, 8

## JP 2
designator J?, comment Jumper 2  (value not drawn)
Value: JP 2
footprint JP2
footprint jp2h
pins: 1, 2

## JP 2-1
designator J?
Jumper 2-1; Value: J2-1
footprint JP3 (Jumper 3)
pins: 1, 2, 3

## Jumper
designator W?
Jumper Wire; Published: 24-Mar-1999; LatestRevisionDate: 17-Jul-2002; LatestRevisionNote: Re-released for DXP Platform.; PackageReference: RAD-0.2; Publisher: Altium Limited; PackageDescription: Radial Cap, Thru-Hole; 2 Leads; 0.2 in Pin Spacing
footprint RAD-0.2 (Radial Cap, Thru-Hole; 2 Leads; 0.2 in Pin Spacing)
pins: 1 C1, 2 C2

## KBU1010
designator D?
10A glass passivated bridge rectifier
pins: 1 - (power), 2 AC (power), 3 AC (power), 4 + (power)

## L1
designator L?, comment 150mH
Inductor; Value: 150 mH
footprint L/0.4 (Inductor , 2 Pin, L 350mil, W 150 mil)
footprint L01 (Inductor)
pins: 1, 2

## L2x220
designator L?, comment L
Inductor; Value: Loc 220; Designed by: VanDungEvn
footprint L2x220
pins: 1, 2, 3, 4

## L293NE
designator U?
Quadruple Half-H Driver; Published: 15-May-2002; LatestRevisionDate: 04-Mar-2005; LatestRevisionNote: Stylized 3D Model Added.; DatasheetVersion: May-1990; PackageVersion: 1991; PackageReference: NE016; Publisher: Altium Limited; PackageDescription: DIP; 16 Leads; Row Spacing 7.62 mm; Pitch 2.54 mm; Code_JEDEC: MS-001-BB; ComponentLink1Description: Manufacturer Link; ComponentLink1URL: http://www.ti.com/; ComponentLink2Description: Datasheet; ComponentLink2URL: http://www-s.ti.com/sc/ds/l293.pdf
footprint DIP16/W0.3 (16 PIN, W 300mil, Pin to pin 100mil)
pins on every part: 4 HSNK/GND (power), 5 HSNK/GND (power), 8 VCC2 (power), 12 HSNK/GND (power), 13 HSNK/GND (power), 16 VCC1 (power)
part A pins: 1 1,2EN (in), 2 1A (in), 3 1Y (hiz), 6 2Y (hiz), 7 2A (in)
part B pins: 9 3,4EN (in), 10 3A (in), 11 3Y (hiz), 14 4Y (hiz), 15 4A (in)

## L298
designator IC?
Dual Full-H Driver; Note: The tab is elec is connected to GND pin; Published: 15-May-2002; DatasheetVersion: Jun-1990; PackageReference: KV015; Publisher: Altium Limited; PackageDescription: TO, Thru-Hole, Vertical, Heatsink Mounted; 15 Bent Staggered Leads; Pitch 1.27 mm; ComponentLink1Description: Manufacturer Link; ComponentLink1URL: http://www.ti.com/
footprint DIP15SL2 (TO, Thru-Hole, Vertical, Heatsink Mounted; 15 Bent Staggered Leads; Pitch 1.27 mm)
pins: 1 1E, 2 1Y1 (hiz), 3 1Y2 (hiz), 4 VCCH (power), 5 1A1 (in), 6 1EN (in), 7 1A2 (in), 8 GND (power), 9 VCCL (power), 10 2A1 (in), 11 2EN (in), 12 2A2 (in), 13 2Y1 (hiz), 14 2Y2 (hiz), 15 2E

## Lamp
designator DS?
Incandescent Bulb; Published: 24-Mar-1999; LatestRevisionDate: 17-Jul-2002; LatestRevisionNote: Re-released for DXP Platform.; PackageReference: PIN2; Publisher: Altium Limited
footprint PIN2 (Incandescent Bulb; 2 Leads)
pins: 1, 2

## LCD16x2A
designator LCD?, comment LCD 16x2A
LCD dipslay 16 char, 2 line; Value: LCD16x2A
footprint LCD16x2 (LCD 16x2, 36.3mmx80.3mm)
pins: 1 GND, 2 VDD, 3 VEE, 4 RS, 5 R/~{W}, 6 ~{EN}, 7 D0, 8 D1, 9 D2, 10 D3, 11 D4, 12 D5, 13 D6, 14 D7, 15 A, 16 K
text: 5V; Vs; |; 0V; R/W; E

## LCD20x4A
designator LCD, comment LCD 20x4A
LCD dipslay 20 char, 4 line; Value: Jum 40; Value: LCD 20x4A
footprint LCD20X4A (LCD dipslay 20x4, 16 pin)
pins: 1 GND, 2 VDD, 3 VSS, 4 RS, 5 R/~{W}, 6 ~{EN}, 7 D0, 8 D1, 9 D2, 10 D3, 11 D4, 12 D5, 13 D6, 14 D7, 15 A, 16 K

## LCD48x84
designator U?, comment PCD8544
LCD Graphic; Value: PCD8544
footprint CON9
pins: 1 VCC, 2 SCLK, 3 SI, 4 D/C, 5 CS, 6 OSC, 7 GND, 8 Vout, 9 ~{RES}

## LCD128x64
designator LCD?
LCD Graphic 128x64; Value: LCD 128x64
footprint LCD128x64 (LCD Graphic 128x64, 20 pin)
pins: 1 GND, 2 VDD, 3 VSS, 4 RS, 5 R/~{W}, 6 ~{EN}, 7 D0, 8 D1, 9 D2, 10 D3, 11 D4, 12 D5, 13 D6, 14 D7, 15 S1, 16 S2, 17 ~{RES}, 18 VEE, 19 A, 20 K

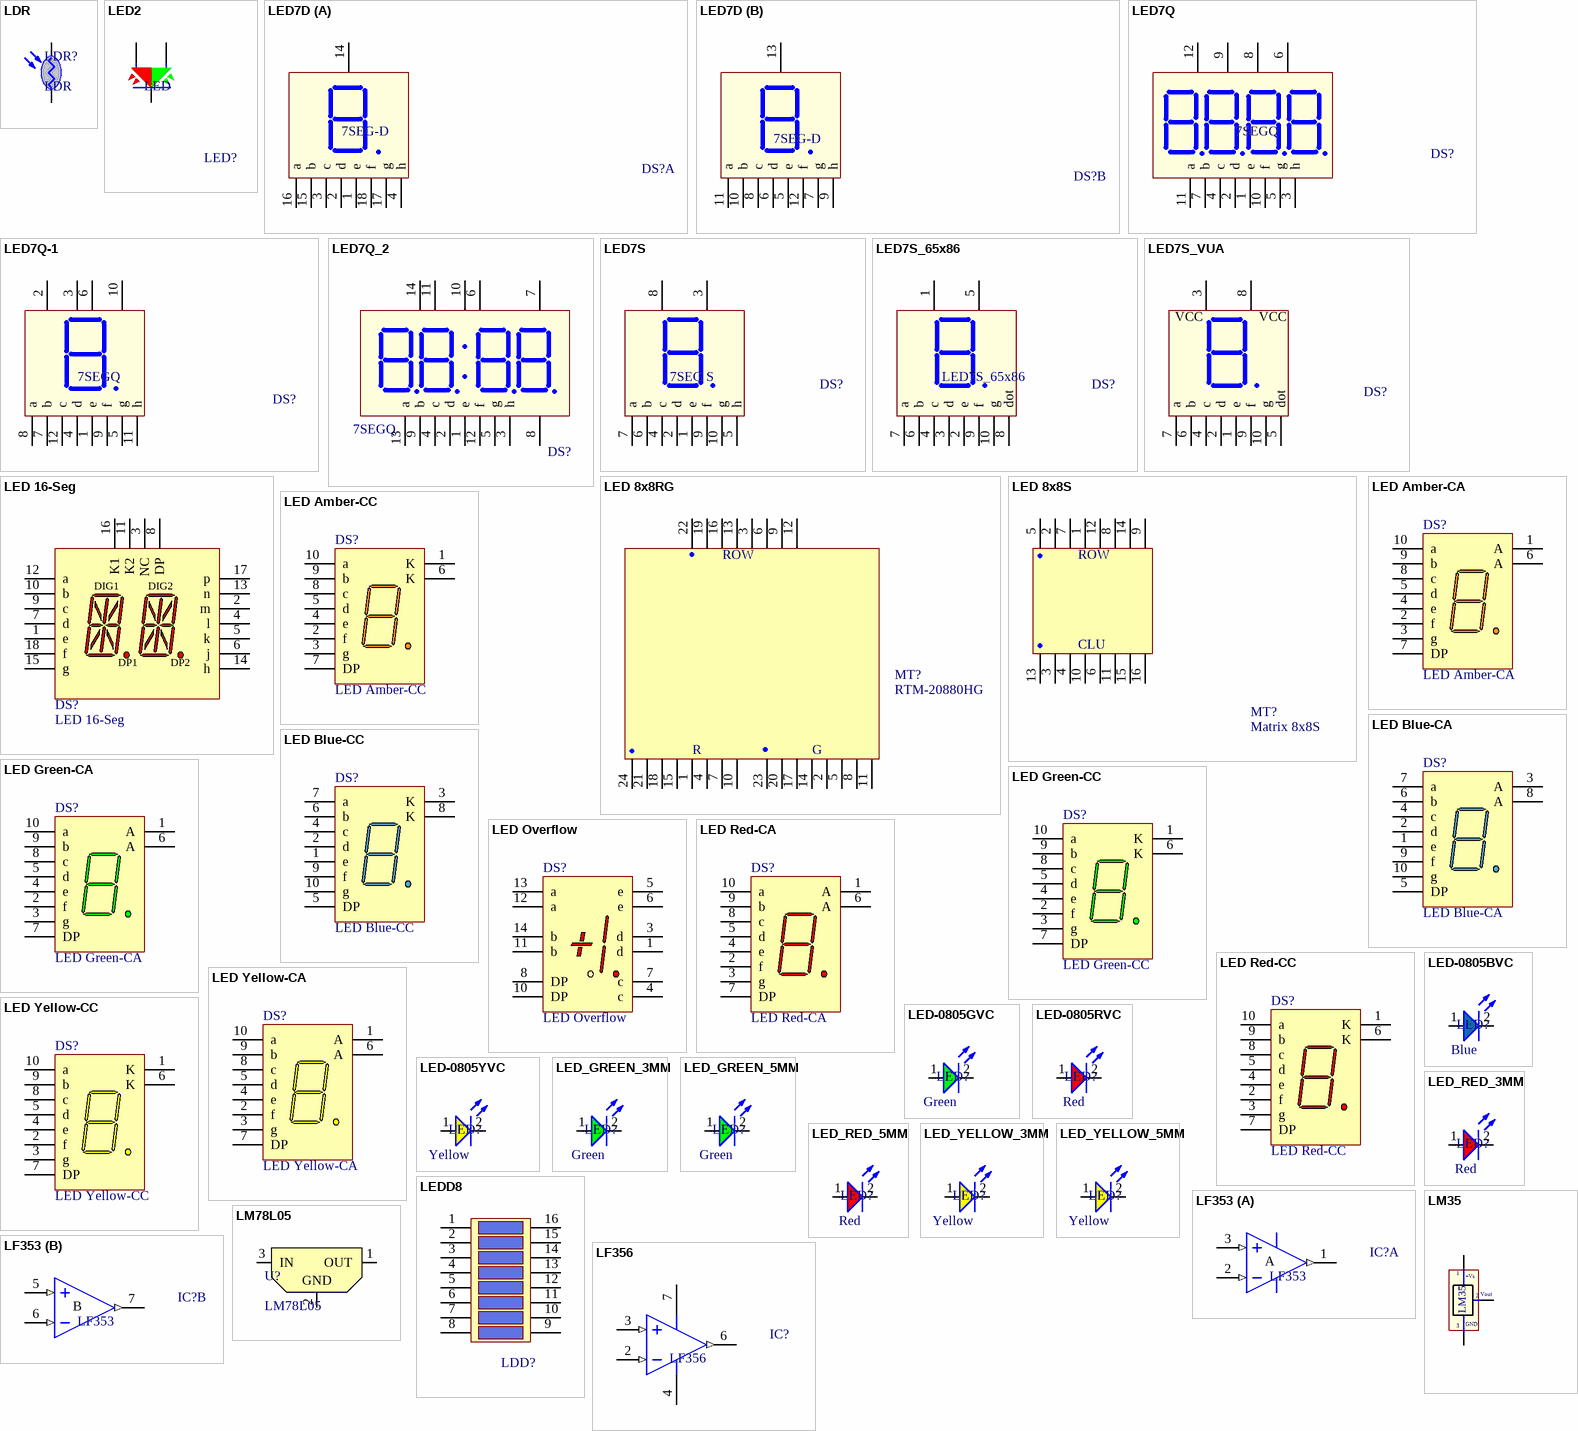
[diagram p11: symbols LDR to LM78L05]

## LDR
designator LDR?
Quang Tro
footprint CDS (Footprint not found)
pins: 1 A, 2 K

## LED2
designator LED?, comment LED
LED 2 colour Green and Red; Value: LED 3 - 5 ly 2 Colour
footprint LED-32 (LED 3 PIN, 3ly Two colour)
footprint LED-52 (LED 3 PIN, 5 ly , Two colour)
pins: 1, 2, 3

## LED7D
designator DS?, comment 7SEG-D
Two 7 Seg Dipslay; Value: LED 7D SEG
footprint 7SEGD (DIP 18Leads; Body 24 x 15 mm; Pitch 0.5 mm)
part A pins: 1 e, 2 d, 3 c, 4 h, 14 V1, 15 b, 16 a, 17 g, 18 f
part B pins: 5 e, 6 d, 7 g, 8 c, 9 h, 10 b, 11 a, 12 f, 13 V2

## LED7Q
designator DS?, comment 7SEGQ
Four 7 Seg Dipslay; Value: LED 7Q SEG
footprint 7SEGQ (DIP 12 Leads; Body 48 x 20 mm; Pitch 0.5 mm)
pins: 1 e, 2 d, 3 h, 4 c, 5 g, 6 V4, 7 b, 8 V3, 9 V2, 10 f, 11 a, 12 V1

## LED7Q-1
designator DS?, comment 7SEGQ
Four 7 Seg Dipslay; Value: LED 7Q SEG
footprint 7SEGQ (DIP 12 Leads; Body 48 x 20 mm; Pitch 0.5 mm)
pins: 1 e, 2 V1, 3 V2, 4 d, 5 g, 6 V3, 7 b, 8 a, 9 f, 10 V4, 11 h, 12 c

## LED7Q_2
designator DS?, comment 7SEGQ
Four 7 Seg Dipslay clock; Value: LED 7Q SEG
footprint 7SEGQ (DIP 12 Leads; Body 48 x 20 mm; Pitch 0.5 mm)
pins: 1 e, 2 d, 3 h, 4 c, 5 g, 6 V4, 7 aled, 8 kled, 9 b, 10 V3, 11 V2, 12 f, 13 a, 14 V1

## LED7S
designator DS?, comment 7SEG S
Single 7 Seg Dipslay; Value: LED 7S SEG
footprint 7SEGS (DIP 10 Leads; Body 12 x 15 mm; Pitch 0.5 mm)
pins: 1 e, 2 d, 3 Vcc, 4 c, 5 h, 6 b, 7 a, 8 Vcc, 9 f, 10 g

## LED7S_65x86
designator DS?
Single 7 Seg Dipslay 65x86mm; Value: LED 7S SEG
footprint 7SEGS_65x86 (DIP 10 Leads; Body 65x86x12 mm; Pitch 2.54mm)
pins: 1 Vcc, 2 e, 3 d, 4 c, 5 Vcc, 6 b, 7 a, 8 dot, 9 f, 10 g

## LED7S_VUA
designator DS?, comment 7SEG S  (value not drawn)
Single 7 Seg Dipslay 29x41 mm; Value: LED 7S SEG
footprint 7SEGS (DIP 10 Leads; Body 12 x 15 mm; Pitch 0.5 mm)
footprint 7SEG_37x55 (DIP 10 Leads; Body 29 x 41 mm; Pitch 0.5 mm)
pins: 1 e, 2 d, 3 VCC, 4 c, 5 dot, 6 b, 7 a, 8 VCC, 9 f, 10 g

## LED 8x8RG
designator MT?, comment RTM-20880HG
Matrix 8x8, Two colour; Value: Matrix 8x8 two colour
footprint 8x8RG (Matran 8x8 2mau,Body 60 X 60mm)
pins: 1 R5, 2 G5, 3 H5, 4 R6, 5 G6, 6 H6, 7 R7, 8 G7, 9 H7, 10 R8, 11 G8, 12 H8, 13 H4, 14 G4, 15 R4, 16 H3, 17 G3, 18 R3, 19 H2, 20 G2, 21 R2, 22 H1, 23 G1, 24 R1
text: ROW; R; G

## LED 8x8S
designator MT?, comment Matrix 8x8S
Matrix 8x8,  Single colour; Value: Matrix 8x8S
footprint 8x8S (Matran 8x8, Body 60 X 60mm)
pins: 1 H4, 2 H2, 3 C2, 4 C3, 5 H1, 6 C5, 7 H3, 8 H6, 9 H8, 10 C4, 11 C6, 12 H5, 13 C1, 14 H7, 15 C7, 16 C8
text: ROW; CLU

## LED 16-Seg
designator DS?
13.7 mm Gray Surface As AlInGaP Red Alphanumeric Display: 2-Character, CC; Published: 8-Jun-2000; LatestRevisionDate: 17-Dec-2003; LatestRevisionNote: Schematic revised, PCB Footprint replaced.; DatasheetVersion: 20-Nov-2001; PackageVersion: 20-Nov-2001; PackageReference: HDSP-A2; Publisher: Altium Limited; PackageDescription: LED, Alphanumeric Display, 13.8 mm, Dual Character; 18 Leads; Row Space 15.24 mm; Pitch 2.54 mm; Colour: As AlInGaP Red; ComponentLink1Description: Manufacturer Link; ComponentLink1URL: http://www.agilent.com/
footprint HDSP-A2 (LED, Alphanumeric Display, 13.8 mm, Dual Character; 18 Leads; Row Space 15.24 mm; Pitch 2.54 mm)
simulation model HDSP_A27C (SUBCKT)
pins: 1 e "Digits (1&2) e Anode", 2 m "Digits (1&2) m Anode", 3 NC "No Connect", 4 l "Digits (1&2) l Anode", 5 k "Digits (1&2) k Anode", 6 j "Digits (1&2) j Anode", 7 d "Digits (1&2) d Anode", 8 DP "Digit 1&2 DP Anode", 9 c "Digits (1&2) c Anode", 10 b "Digits (1&2) b Anode", 11 K2 "Digit 2 Common Cathode", 12 a "Digits (1&2) a Anode", 13 n "Digits (1&2) n Anode", 14 h "Digits (1&2) h Anode", 15 g "Digits (1&2) g Anode", 16 K1 "Digit 1 Common Cathode", 17 p "Digits (1&2) p Anode", 18 f "Digits (1&2) f Anode"
text: DIG1; DIG2; DP1; DP2

## LED Amber-CA
designator DS?
7.62 mm Black Surface Orange 7-Segment Display: CA, RH DP; MinimumIntensity: 354 ucd; Note: IF = 5 mA; Note: Pins 1 and 6 are redundant Anodes.; Published: 8-Jun-2000; LatestRevisionDate: 17-Dec-2003; LatestRevisionNote: Schematic revised, PCB Footprint replaced.; DatasheetVersion: 19-Feb-2002; PackageVersion: 11-Feb-2002; PackageReference: A; Publisher: Altium Limited; PackageDescription: LED, 7-Segment Display, 7.62 mm, RHD; 10 Leads; Row Space 5.08 mm; Pitch 2.54 mm; Colour: Orange; ComponentLink1Description: Manufacturer Link; ComponentLink1URL: http://www.agilent.com/
footprint A (LED, 7-Segment Display, 7.62 mm, RHD; 10 Leads; Row Space 5.08 mm; Pitch 2.54 mm)
simulation model HDSP_A211 (SUBCKT)
pins: 1 A "Anode", 2 f "Cathode", 3 g "Cathode", 4 e "Cathode", 5 d "Cathode", 6 A "Anode", 7 DP "Cathode", 8 c "Cathode", 9 b "Cathode", 10 a "Cathode"

## LED Amber-CC
designator DS?
7.62 mm Black Surface Orange 7-Segment Display: CC, RH DP; MinimumIntensity: 354 ucd; Note: IF = 5 mA; Note: Pins 1 and 6 are redundant Cathodes.; Published: 8-Jun-2000; LatestRevisionDate: 17-Dec-2003; LatestRevisionNote: Schematic revised, PCB Footprint replaced.; DatasheetVersion: 19-Feb-2002; PackageVersion: 11-Feb-2002; PackageReference: A; Publisher: Altium Limited; PackageDescription: LED, 7-Segment Display, 7.62 mm, RHD; 10 Leads; Row Space 5.08 mm; Pitch 2.54 mm; Colour: Orange; ComponentLink1Description: Manufacturer Link; ComponentLink1URL: http://www.agilent.com/
footprint A (LED, 7-Segment Display, 7.62 mm, RHD; 10 Leads; Row Space 5.08 mm; Pitch 2.54 mm)
simulation model HDSP_A213 (SUBCKT)
pins: 1 K "Cathode", 2 f "Anode", 3 g "Anode", 4 e "Anode", 5 d "Anode", 6 K "Cathode", 7 DP "Anode", 8 c "Anode", 9 b "Anode", 10 a "Anode"

## LED Blue-CA
designator DS?
14.2 mm General Purpose Blue 7-Segment Display: CA, RH DP, Gray Surface; MinimumIntensity: 2020 ucd; Note: IF = 10 mA; Published: 8-Jun-2000; LatestRevisionDate: 17-Dec-2003; LatestRevisionNote: Schematic revised, PCB Footprint replaced.; DatasheetVersion: 24-Sep-2002; PackageVersion: 24-Sep-2002; PackageReference: H; Publisher: Altium Limited; PackageDescription: LED, 7-Segment Display, 14.2 mm, RHD; 10 Leads; Row Space 15.24 mm; Pitch 2.54 mm; Colour: Blue; ComponentLink1Description: Manufacturer Link; ComponentLink1URL: http://www.agilent.com/
footprint H (LED, 7-Segment Display, 14.2 mm, RHD; 10 Leads; Row Space 15.24 mm; Pitch 2.54 mm)
simulation model HDSP_501B (SUBCKT)
pins: 1 e "Cathode", 2 d "Cathode", 3 A "Common Anode", 4 c "Cathode", 5 DP "Cathode", 6 b "Cathode", 7 a "Cathode", 8 A "Common Anode", 9 f "Cathode", 10 g "Cathode"

## LED Blue-CC
designator DS?
14.2 mm General Purpose Blue 7-Segment Display: CC, RH DP, Gray Surface; MinimumIntensity: 2020 ucd; Note: IF = 10 mA; Published: 8-Jun-2000; LatestRevisionDate: 17-Dec-2003; LatestRevisionNote: Schematic revised, PCB Footprint replaced.; DatasheetVersion: 24-Sep-2002; PackageVersion: 24-Sep-2002; PackageReference: H; Publisher: Altium Limited; PackageDescription: LED, 7-Segment Display, 14.2 mm, RHD; 10 Leads; Row Space 15.24 mm; Pitch 2.54 mm; Colour: Blue; ComponentLink1Description: Manufacturer Link; ComponentLink1URL: http://www.agilent.com/
footprint H (LED, 7-Segment Display, 14.2 mm, RHD; 10 Leads; Row Space 15.24 mm; Pitch 2.54 mm)
simulation model HDSP_503B (SUBCKT)
pins: 1 e "Anode", 2 d "Anode", 3 K "Common Cathode", 4 c "Anode", 5 DP "Anode", 6 b "Anode", 7 a "Anode", 8 K "Common Cathode", 9 f "Anode", 10 g "Anode"

## LED Green-CA
designator DS?
7.62 mm Black Surface Green 7-Segment Display: CA, RH DP; MinimumIntensity: 860 ucd; Note: IF = 10 mA; Note: Pins 1 and 6 are redundant Anodes.; Published: 8-Jun-2000; LatestRevisionDate: 17-Dec-2003; LatestRevisionNote: Schematic revised, PCB Footprint replaced.; DatasheetVersion: 19-Feb-2002; PackageVersion: 11-Feb-2002; PackageReference: A; Publisher: Altium Limited; PackageDescription: LED, 7-Segment Display, 7.62 mm, RHD; 10 Leads; Row Space 5.08 mm; Pitch 2.54 mm; Colour: Green; ComponentLink1Description: Manufacturer Link; ComponentLink1URL: http://www.agilent.com/
footprint A (LED, 7-Segment Display, 7.62 mm, RHD; 10 Leads; Row Space 5.08 mm; Pitch 2.54 mm)
simulation model HDSP_A511 (SUBCKT)
pins: 1 A "Anode", 2 f "Cathode", 3 g "Cathode", 4 e "Cathode", 5 d "Cathode", 6 A "Anode", 7 DP "Cathode", 8 c "Cathode", 9 b "Cathode", 10 a "Cathode"

## LED Green-CC
designator DS?
7.62 mm Black Surface Green 7-Segment Display: CC, RH DP; MinimumIntensity: 860 ucd; Note: IF = 10 mA; Note: Pins 1 and 6 are redundant Cathodes.; Published: 8-Jun-2000; LatestRevisionDate: 17-Dec-2003; LatestRevisionNote: Schematic revised, PCB Footprint replaced.; DatasheetVersion: 19-Feb-2002; PackageVersion: 11-Feb-2002; PackageReference: A; Publisher: Altium Limited; PackageDescription: LED, 7-Segment Display, 7.62 mm, RHD; 10 Leads; Row Space 5.08 mm; Pitch 2.54 mm; Colour: Green; ComponentLink1Description: Manufacturer Link; ComponentLink1URL: http://www.agilent.com/
footprint A (LED, 7-Segment Display, 7.62 mm, RHD; 10 Leads; Row Space 5.08 mm; Pitch 2.54 mm)
simulation model HDSP_A513 (SUBCKT)
pins: 1 K "Cathode", 2 f "Anode", 3 g "Anode", 4 e "Anode", 5 d "Anode", 6 K "Cathode", 7 DP "Anode", 8 c "Anode", 9 b "Anode", 10 a "Anode"

## LED Overflow
designator DS?
7.62 mm HER 7-Segment Display: Universal ±1 Overflow, RH DP; MinimumIntensity: 340 ucd; Note: IF = 5 mA; Colour: High Efficiency Red (HER); Note: No pins are present in positions 2 and 9.; Published: 8-Jun-2000; LatestRevisionDate: 17-Dec-2003; LatestRevisionNote: Schematic revised, PCB Footprint replaced.; DatasheetVersion: 27-Aug-2001; PackageVersion: 10-Mar-2001; PackageReference: A-12; Publisher: Altium Limited; PackageDescription: LED, Universal ±1 Overflow, 7.62 mm, RHD; 14 Leads (2 Absent); Row Space 7.62 mm; Pitch 2.54 mm; ComponentLink1Description: Manufacturer Link; ComponentLink1URL: http://www.agilent.com/
footprint A-12 (LED, Universal ±1 Overflow, 7.62 mm, RHD; 14 Leads (2 Absent); Row Space 7.62 mm; Pitch 2.54 mm)
simulation model 5082_7616 (SUBCKT)
pins: 1 d "Anode", 3 d "Cathode", 4 c "Cathode", 5 e "Cathode", 6 e "Anode", 7 c "Anode", 8 DP "Anode", 10 DP "Cathode", 11 b "Cathode", 12 a "Cathode", 13 a "Anode", 14 b "Anode"

## LED Red-CA
designator DS?
7.62 mm Black Surface HER 7-Segment Display: CA, RH DP; MinimumIntensity: 360 ucd; Note: IF = 5 mA; Colour: High Efficiency Red (HER); Note: Pins 1 and 6 are redundant Anodes.; Published: 8-Jun-2000; LatestRevisionDate: 17-Dec-2003; LatestRevisionNote: Schematic revised, PCB Footprint replaced.; DatasheetVersion: 19-Feb-2002; PackageVersion: 11-Feb-2002; PackageReference: A; Publisher: Altium Limited; PackageDescription: LED, 7-Segment Display, 7.62 mm, RHD; 10 Leads; Row Space 5.08 mm; Pitch 2.54 mm; ComponentLink1Description: Manufacturer Link; ComponentLink1URL: http://www.agilent.com/
footprint A (LED, 7-Segment Display, 7.62 mm, RHD; 10 Leads; Row Space 5.08 mm; Pitch 2.54 mm)
simulation model HDSP_A211 (SUBCKT)
pins: 1 A "Anode", 2 f "Cathode", 3 g "Cathode", 4 e "Cathode", 5 d "Cathode", 6 A "Anode", 7 DP "Cathode", 8 c "Cathode", 9 b "Cathode", 10 a "Cathode"

## LED Red-CC
designator DS?
7.62 mm Black Surface HER 7-Segment Display: CC, RH DP; MinimumIntensity: 360 ucd; Note: IF = 5 mA; Colour: High Efficiency Red (HER); Note: Pins 1 and 6 are redundant Cathodes.; Published: 8-Jun-2000; LatestRevisionDate: 17-Dec-2003; LatestRevisionNote: Schematic revised, PCB Footprint replaced.; DatasheetVersion: 19-Feb-2002; PackageVersion: 11-Feb-2002; PackageReference: A; Publisher: Altium Limited; PackageDescription: LED, 7-Segment Display, 7.62 mm, RHD; 10 Leads; Row Space 5.08 mm; Pitch 2.54 mm; ComponentLink1Description: Manufacturer Link; ComponentLink1URL: http://www.agilent.com/
footprint A (LED, 7-Segment Display, 7.62 mm, RHD; 10 Leads; Row Space 5.08 mm; Pitch 2.54 mm)
simulation model HDSP_A213 (SUBCKT)
pins: 1 K "Cathode", 2 f "Anode", 3 g "Anode", 4 e "Anode", 5 d "Anode", 6 K "Cathode", 7 DP "Anode", 8 c "Anode", 9 b "Anode", 10 a "Anode"

## LED Yellow-CA
designator DS?
7.6 mm Micro Bright Yellow 7-Segment Display: CA, RH DP; MinimumIntensity: 225 ucd; Note: IF = 5 mA; Note: Pins 1 and 6 are redundant Anodes.; Published: 8-Jun-2000; LatestRevisionDate: 17-Dec-2003; LatestRevisionNote: Schematic revised, PCB Footprint replaced.; DatasheetVersion: 11-Feb-2002; PackageVersion: 11-Feb-2002; PackageReference: A; Publisher: Altium Limited; PackageDescription: LED, 7-Segment Display, 7.62 mm, RHD; 10 Leads; Row Space 5.08 mm; Pitch 2.54 mm; Colour: Yellow; ComponentLink1Description: Manufacturer Link; ComponentLink1URL: http://www.agilent.com/
footprint A (LED, 7-Segment Display, 7.62 mm, RHD; 10 Leads; Row Space 5.08 mm; Pitch 2.54 mm)
simulation model HDSP_7401 (SUBCKT)
pins: 1 A "Anode", 2 f "Cathode", 3 g "Cathode", 4 e "Cathode", 5 d "Cathode", 6 A "Anode", 7 DP "Cathode", 8 c "Cathode", 9 b "Cathode", 10 a "Cathode"

## LED Yellow-CC
designator DS?
7.6 mm Micro Bright Yellow 7-Segment Display: CC, RH DP; MinimumIntensity: 225 ucd; Note: IF = 5 mA; Note: Pins 1 and 6 are redundant Cathodes.; Published: 8-Jun-2000; LatestRevisionDate: 17-Dec-2003; LatestRevisionNote: Schematic revised, PCB Footprint replaced.; DatasheetVersion: 11-Feb-2002; PackageVersion: 11-Feb-2002; PackageReference: A; Publisher: Altium Limited; PackageDescription: LED, 7-Segment Display, 7.62 mm, RHD; 10 Leads; Row Space 5.08 mm; Pitch 2.54 mm; Colour: Yellow; ComponentLink1Description: Manufacturer Link; ComponentLink1URL: http://www.agilent.com/
footprint A (LED, 7-Segment Display, 7.62 mm, RHD; 10 Leads; Row Space 5.08 mm; Pitch 2.54 mm)
simulation model HDSP_7403 (SUBCKT)
pins: 1 K "Cathode", 2 f "Anode", 3 g "Anode", 4 e "Anode", 5 d "Anode", 6 K "Cathode", 7 DP "Anode", 8 c "Anode", 9 b "Anode", 10 a "Anode"

## LED-0805BVC
designator LED?  value Blue  (hidden comment: LED-0805BVC)
LED Blue 2mA 3V 0805; ComponentLink1Description: Datasheet; ComponentLink1URL: D:\Dropbox\Datasheets\Opto and Illumination\LEDs\SMD LED.pdf; Unit Price: 0.0476
footprint Led 0805G (Chip LED; Green; Body 2.0 x 1.3 mm (LxW typ))
pins: 1 A, 2 K

## LED-0805GVC
designator LED?  value Green  (hidden comment: LED-0805GVC)
LED Green 2mA 3V 0805; ComponentLink1Description: Datasheet; ComponentLink1URL: D:\Dropbox\Datasheets\Opto and Illumination\LEDs\SMD LED.pdf; Unit Price: 0.0476
footprint Led 0805G (Chip LED; Green; Body 2.0 x 1.3 mm (LxW typ))
pins: 1 A, 2 K

## LED-0805RVC
designator LED?  value Red  (hidden comment: LED-0805RVC)
LED Red 2mA 1.8V 0805; ComponentLink1Description: Datasheet; ComponentLink1URL: D:\Dropbox\Datasheets\Opto and Illumination\LEDs\SMD LED.pdf; Unit Price: 0.0476
footprint Led 0805R (Chip LED; RED ; Body 2.0 x 1.3 mm (LxW typ))
pins: 1 A, 2 K

## LED-0805YVC
designator LED?  value Yellow  (hidden comment: LED-0805YVC)
LED Yellow 2mA 1.8V 0805; ComponentLink1Description: Datasheet; ComponentLink1URL: D:\Dropbox\Datasheets\Opto and Illumination\LEDs\SMD LED.pdf; Unit Price: 0.0476
footprint Led 0805Y (Chip LED; Yellow; Body 2.0 x 1.3 mm (LxW typ))
pins: 1 A, 2 K

## LED_GREEN_3MM
designator LED?, comment value Green  (hidden comment: LED_G_3)
LED Green 3mm; ComponentLink1Description: Datasheet; ComponentLink1URL: D:\Dropbox\Datasheets\Opto and Illumination\LEDs\SMD LED.pdf; Unit Price: 0.0476
footprint LED3G (LED 3mm_GREEN)
pins: 1 A, 2 K

## LED_GREEN_5MM
designator LED?, comment value Green  (hidden comment: LED_G_5)
LED Green 5mm; ComponentLink1Description: Datasheet; ComponentLink1URL: D:\Dropbox\Datasheets\Opto and Illumination\LEDs\SMD LED.pdf; Unit Price: 0.0476
footprint LED5G (LED, GREEN, 2 LEAD, 5mm)
pins: 1 A, 2 K

## LED_RED_3MM
designator LED?, comment value Red  (hidden comment: LED_R_3)
LED Red 3mm; ComponentLink1Description: Datasheet; ComponentLink1URL: D:\Dropbox\Datasheets\Opto and Illumination\LEDs\SMD LED.pdf; Unit Price: 0.0476
footprint LED3R (LED 3mm_RED)
pins: 1 A, 2 K

## LED_RED_5MM
designator LED?, comment value Red  (hidden comment: LED_R_5)
LED Red 5mm; ComponentLink1Description: Datasheet; ComponentLink1URL: D:\Dropbox\Datasheets\Opto and Illumination\LEDs\SMD LED.pdf; Unit Price: 0.0476
footprint LED5R (LED, RED, 2 LEAD, 5mm)
pins: 1 A, 2 K

## LED_YELLOW_3MM
designator LED?, comment value Yellow  (hidden comment: LED_Y_3)
LED Yellow 3mm; ComponentLink1Description: Datasheet; ComponentLink1URL: D:\Dropbox\Datasheets\Opto and Illumination\LEDs\SMD LED.pdf; Unit Price: 0.0476
footprint LED3Y (LED 3mm_Yellow)
pins: 1 A, 2 K

## LED_YELLOW_5MM
designator LED?, comment value Yellow  (hidden comment: LED_Y_5)
LED Yellow 5mm; ComponentLink1Description: Datasheet; ComponentLink1URL: D:\Dropbox\Datasheets\Opto and Illumination\LEDs\SMD LED.pdf; Unit Price: 0.0476
footprint LED5Y (LED, YELLOW, 2 LEAD, 5mm)
pins: 1 A, 2 K

## LEDD8
designator LDD?, comment LED DIP 8  (value not drawn)
Value: LED DIP 8
footprint DIP16/W0.3K (16 PIN, W 300mil, Pin to pin 100mil For Switch)
pins: 1, 2, 3, 4, 5, 6, 7, 8, 9, 10, 11, 12, 13, 14, 15, 16

## LF353
designator IC?
Wide-Bandwidth Dual JFET Input Operational Amplifier; Published: 15-Apr-2002; LatestRevisionDate: 06-Jun-2005; LatestRevisionNote: Stylized 3D Model Added.; DatasheetDocument: Apr-1998; PackageDocument: Sep-1997; Publisher: Altium Limited; ComponentLink1Description: Manufacturer Link; ComponentLink1URL: http://www.national.com/; ComponentLink2Description: Datasheet; ComponentLink2URL: http://www.national.com/ds.cgi/LF/LF353.pdf; ComponentLink3Description: URL Link1; ComponentLink3URL: http://www.national.com/pf/LF/LF353.html; Value: LF353
footprint DIP8/W0.3 (8 PIN, W 300mil, Pin to pin 100mil)
part A pins: 1 OUT (out), 2 IN- (in), 3 IN+ (in)
part B pins: 5 IN+ (in), 6 IN- (in), 7 OUT (out)
part A text: A
part B text: B

## LF356
designator IC?
Wide-Bandwidth Single JFET Input Operational Amplifier; Published: 15-Apr-2002; LatestRevisionDate: 06-Jun-2005; LatestRevisionNote: Stylized 3D Model Added.; DatasheetDocument: Apr-1998; PackageDocument: Sep-1997; Publisher: Altium Limited; ComponentLink1Description: Manufacturer Link; ComponentLink1URL: http://www.national.com/; ComponentLink2Description: Datasheet; ComponentLink2URL: http://www.national.com/ds.cgi/LF/LF353.pdf; ComponentLink3Description: URL Link1; ComponentLink3URL: http://www.national.com/pf/LF/LF353.html; Value: LF356
footprint DIP8/W0.3 (8 PIN, W 300mil, Pin to pin 100mil)
pins: 2 IN- (in), 3 IN+ (in), 4 V- (power), 6 OUT (out), 7 V+ (power)

## LM35
designator U?
Teminal; Value: LM35
footprint QTO-92 (TO-92)
pins: 1 +Vs, 2 Vout, 3 -
text: GND

## LM78L05
designator U?
Linear Voltage Regulator 5V 0.1A 35V Max TO-92; ComponentLink1Description: Datasheet; ComponentLink1URL: D:\Dropbox\Datasheets\Power Management ICs\Linear Regulators\LM78LXX.pdf; Unit Price: 0.0714
footprint TO-92B (TO-92 Bent Lead, Flat Index; 3 In-Line, Axial Leads; Body Dia. 4.5mm; Leads 0.51 x 0.48 mm (max))
pins: 1 OUT (power), 2 GND (power), 3 IN (power)

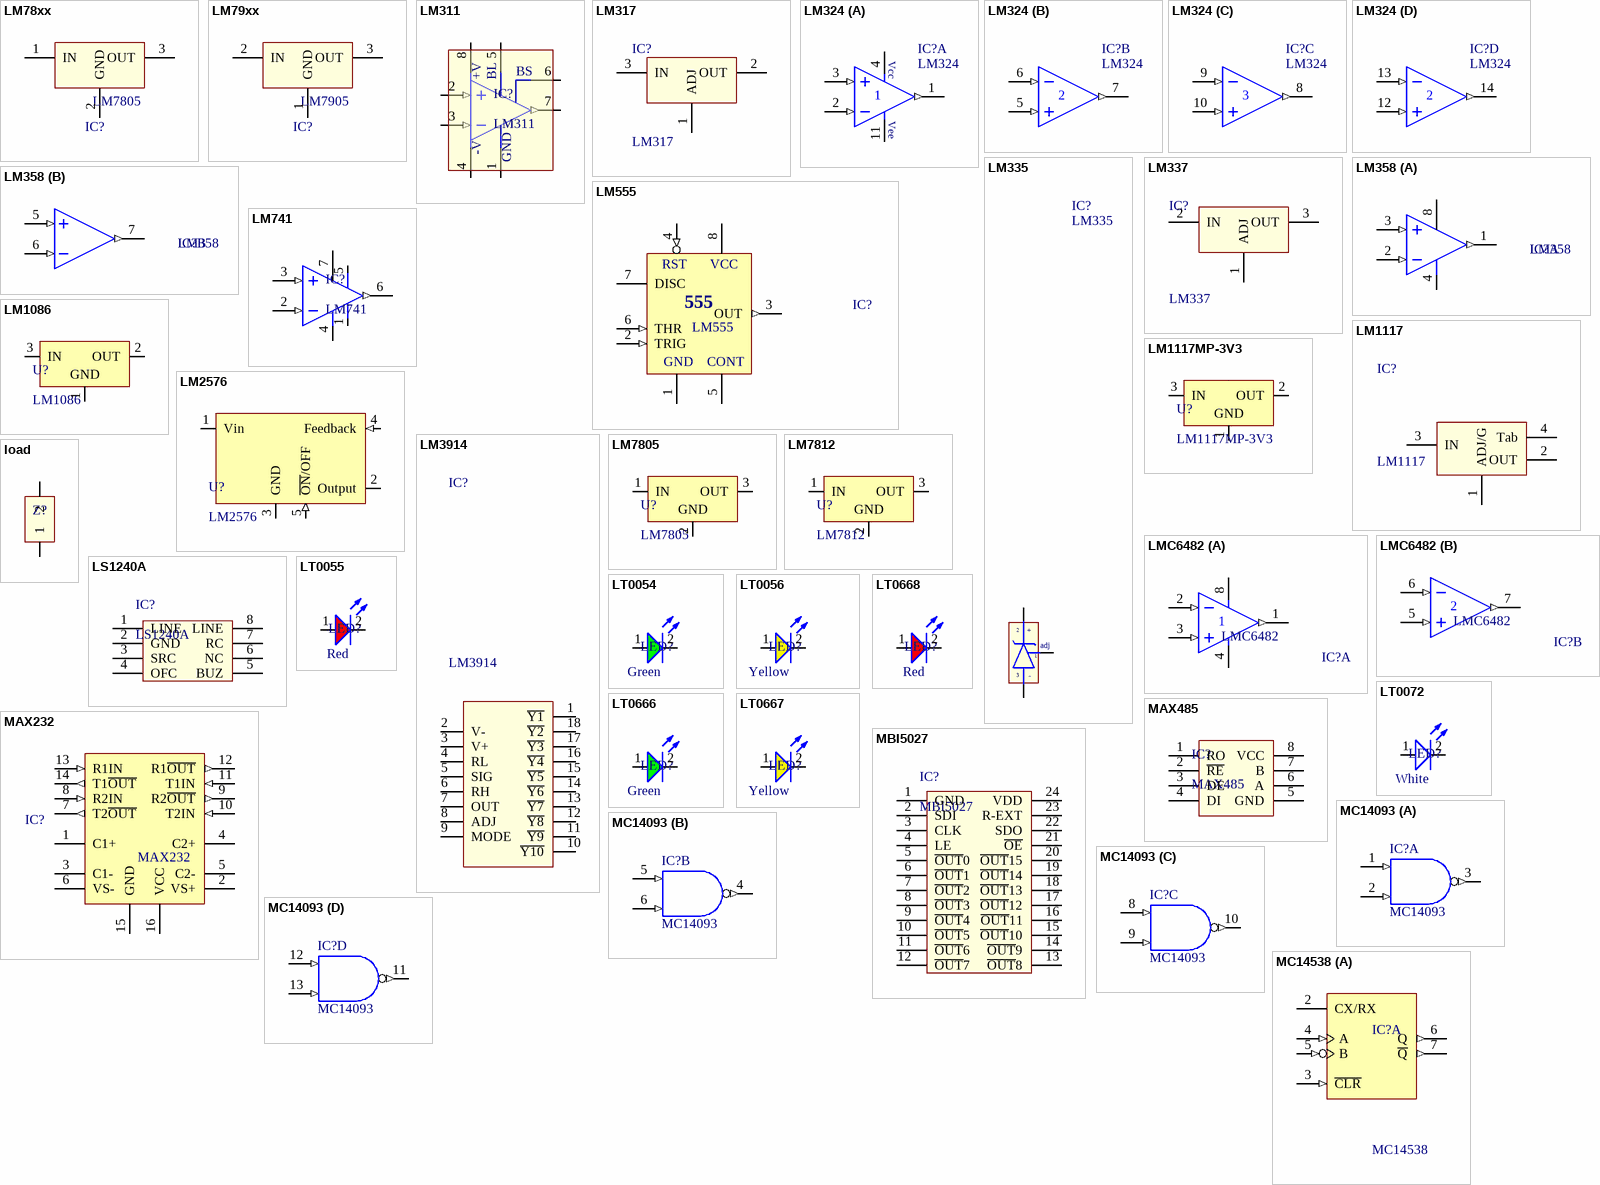
[diagram p12: symbols LM78xx to MC14538]

## LM78xx
designator IC?, comment LM7805
On ap +, from + 5 to + 24VDC; Value: LM7805
footprint QTO-220 (TO-220 - 1-2-3)
footprint QTO-220H3 (TO-220 1-2-3)
footprint QTO-220NH (TO-220 - 1-2-3)
pins: 1 IN, 2 GND, 3 OUT

## LM79xx
designator IC?, comment LM7905
On ap -, from - 5 to - 24VDC; Value: LM7905
footprint QTO-220 (TO-220 - 1-2-3)
footprint QTO-220H3 (TO-220 1-2-3)
footprint QTO-220NH (TO-220 - 1-2-3)
pins: 1 GND, 2 IN, 3 OUT

## LM311
designator IC?
Voltage Comparator; Value: DIP 8; Value: LM311
footprint DIP8/W0.3 (8 PIN, W 300mil, Pin to pin 100mil)
footprint SO-8 (8-Pin Small Outline Integrated Circuit 1.27 mm Pitch, IPC Medium Density)
pins: 1 F2 (power), 2 IN+ (in), 3 IN- (in), 4 GND (power), 5 F1 (power), 6 F2 (power), 7 OUT (out), 8 V+ (power)
text: +V; BL; BS; -V

## LM317
designator IC?
Adj Voltage +1.2 -> +37V; Value: LM317
footprint QTO-220 (TO-220 - 1-2-3)
pins: 1 ADJ, 2 OUT, 3 IN

## LM324
designator IC?
Op x 4; Value: LM324
footprint DIP14/W0.3 (14PIN, W 300mil)
part A pins: 1 OUT (out), 2 IN- (in), 3 IN+ (in), 4 V+ (power), 11 V- (power)
part B pins: 5 IN+ (in), 6 IN- (in), 7 OUT (out)
part C pins: 8 OUT (out), 9 IN- (in), 10 IN+ (in)
part D pins: 12 IN+ (in), 13 IN- (in), 14 OUT (out)
part A text: Vcc; Vee

## LM335
designator IC?
Teminal; Value: LM335
footprint QTO-92 (TO-92)
pins: 1 adj, 2 +, 3 -

## LM337
designator IC?
On ap (-)     -1.2 -> - 37V; Value: LM337
footprint QTO-220 (TO-220 - 1-2-3)
pins: 1 ADJ, 2 IN, 3 OUT

## LM358
designator IC?
Low-Power Dual Operational Amplifier; Value: LM358
footprint DIP8/W0.3 (8 PIN, W 300mil, Pin to pin 100mil)
part A pins: 1 OUT (out), 2 IN- (in), 3 IN+ (in), 4 -V, 8 +V
part B pins: 5 IN+ (in), 6 IN- (in), 7 OUT (out)

## LM555
designator IC?
Timer; Value: LM555
footprint LM555 (DIP 8, 8 PIN, W 7.62, Pin to pin 2.54MM)
pins: 1 GND (power), 2 TRIG (in), 3 OUT (out), 4 RST (in), 5 CONT, 6 THR (in), 7 DISC (oc), 8 VCC (power)
text: 555

## LM741
designator IC?
Single OA
footprint DIP8/W0.3 (8 PIN, W 300mil, Pin to pin 100mil)
pins: 1 Vos, 2 IN- (in), 3 IN+ (in), 4 -V, 5 Vos, 6 OUT (out), 7 +V

## LM1086
designator U?
Linear Voltage Regulator 3V3 1.5A 24V Max TO-220; ComponentLink1Description: Datasheet; ComponentLink1URL: D:\Dropbox\Datasheets\Power Management ICs\Linear Regulators\LM78XX.pdf; Unit Price: 0.3000
footprint LM1086 (TO-263 1.5A Low Dropout Positive Regulators)
pins: 1 GND (power), 2 OUT (power), 3 IN (power)

## LM1117
designator IC?
3v3; Value: LM317
footprint SOT223-4N (SOT223, 4-Leads, Body 6.5x3.5mm, Pitch 2.3mm, Lead Span 7mm, IPC Medium Density)
pins: 1 ADJ/G, 2 OUT, 3 IN, 4 Tab

## LM1117MP-3V3
designator U?
Linear Voltage Regulator 3.3V 1A 15V Max SOT-223; ComponentLink1Description: Datasheet; ComponentLink1URL: D:\Dropbox\Datasheets\Power Management ICs\Linear Regulators\LM1117.pdf; Unit Price: 0.2000
footprint AMS1117-3.3V (SOT223, 4-Leads, Body 6.7x7.3mm (max), Pitch 2.30mm, IPC Medium Density)
pins: 1 GND (power), 2 OUT (power), 3 IN (power), 4 OUT (power)

## LM2576
designator U?
Step-Down Switching Regulator 5V 3.0 A 15 V Max
pins: 1 Vin (power), 2 Output (power), 3 GND (power), 4 Feedback (in), 5 ~{ON}/OFF (in)

## LM3914
designator IC?
Value: LM3914
footprint DIP18/W0.3 (18 PIN, W 300mil, Pin to pin 100mil)
pins: 1 ~{Y1}, 2 V-, 3 V+, 4 RL, 5 SIG, 6 RH, 7 OUT, 8 ADJ, 9 MODE, 10 ~{Y10}, 11 ~{Y9}, 12 ~{Y8}, 13 ~{Y7}, 14 ~{Y6}, 15 ~{Y5}, 16 ~{Y4}, 17 ~{Y3}, 18 ~{Y2}

## LM7805
designator U?
Linear Voltage Regulator 5V 1A 24V Max TO-220; ComponentLink1Description: Datasheet; ComponentLink1URL: D:\Dropbox\Datasheets\Power Management ICs\Linear Regulators\LM78XX.pdf; Unit Price: 0.3000
footprint LM7805 (POWER IC 7805)
pins: 1 IN (power), 2 GND (power), 3 OUT (power)

## LM7812
designator U?
Linear Voltage Regulator 12V 1A 24V Max TO-220; ComponentLink1Description: Datasheet; ComponentLink1URL: D:\Dropbox\Datasheets\Power Management ICs\Linear Regulators\LM78XX.pdf; Unit Price: 0.3000
footprint LM7805 (POWER IC 7805)
pins: 1 IN (power), 2 GND (power), 3 OUT (power)

## LMC6482
designator IC?
Dual OA; Value: LMC6482
footprint DIP8/W0.3 (8 PIN, W 300mil, Pin to pin 100mil)
part A pins: 1 OUT (out), 2 IN- (in), 3 IN+ (in), 4 V- (power), 8 V+ (power)
part B pins: 5 IN+ (in), 6 IN- (in), 7 OUT (out)

## load
designator Z?  (value not drawn)
pins: 1, 2

## LS1240A
designator IC?
Electronic Two-Tone Ringer
footprint DIP8/W0.3 (8 PIN, W 300mil, Pin to pin 100mil)
pins: 1 LINE, 2 GND, 3 SRC, 4 OFC, 5 BUZ, 6 NC, 7 RC, 8 LINE

## LT0054
designator LED?  value Green  (hidden comment: LT0054)
LED Green 20mA 2.2V 5mm; ComponentLink1Description: Datasheet; ComponentLink1URL: D:\Dropbox\Datasheets\Opto and Illumination\LEDs\LT0054.pdf; Unit Price: 0.0085
footprint LED5G (Footprint not found)
pins: 1 A, 2 K

## LT0055
designator LED?  value Red  (hidden comment: LT0055)
LED Red 20mA 2.0V 5mm; ComponentLink1Description: Datasheet; ComponentLink1URL: D:\Dropbox\Datasheets\Opto and Illumination\LEDs\LT0055.pdf; Unit Price: 0.0077
footprint LED5R (Footprint not found)
pins: 1 A, 2 K

## LT0056
designator LED?  value Yellow  (hidden comment: LT0056)
LED Yellow 20mA 2.1V 5mm; ComponentLink1Description: Datasheet; ComponentLink1URL: D:\Dropbox\Datasheets\Opto and Illumination\LEDs\LT0056.pdf; Unit Price: 0.0085
footprint LED5Y (Footprint not found)
pins: 1 A, 2 K